# Altium schematic symbol library Driver_Motor.SchLib: 95 symbols (part 1 of 2)
Pins are listed as number, name and electrical type; pins without a type are passive.

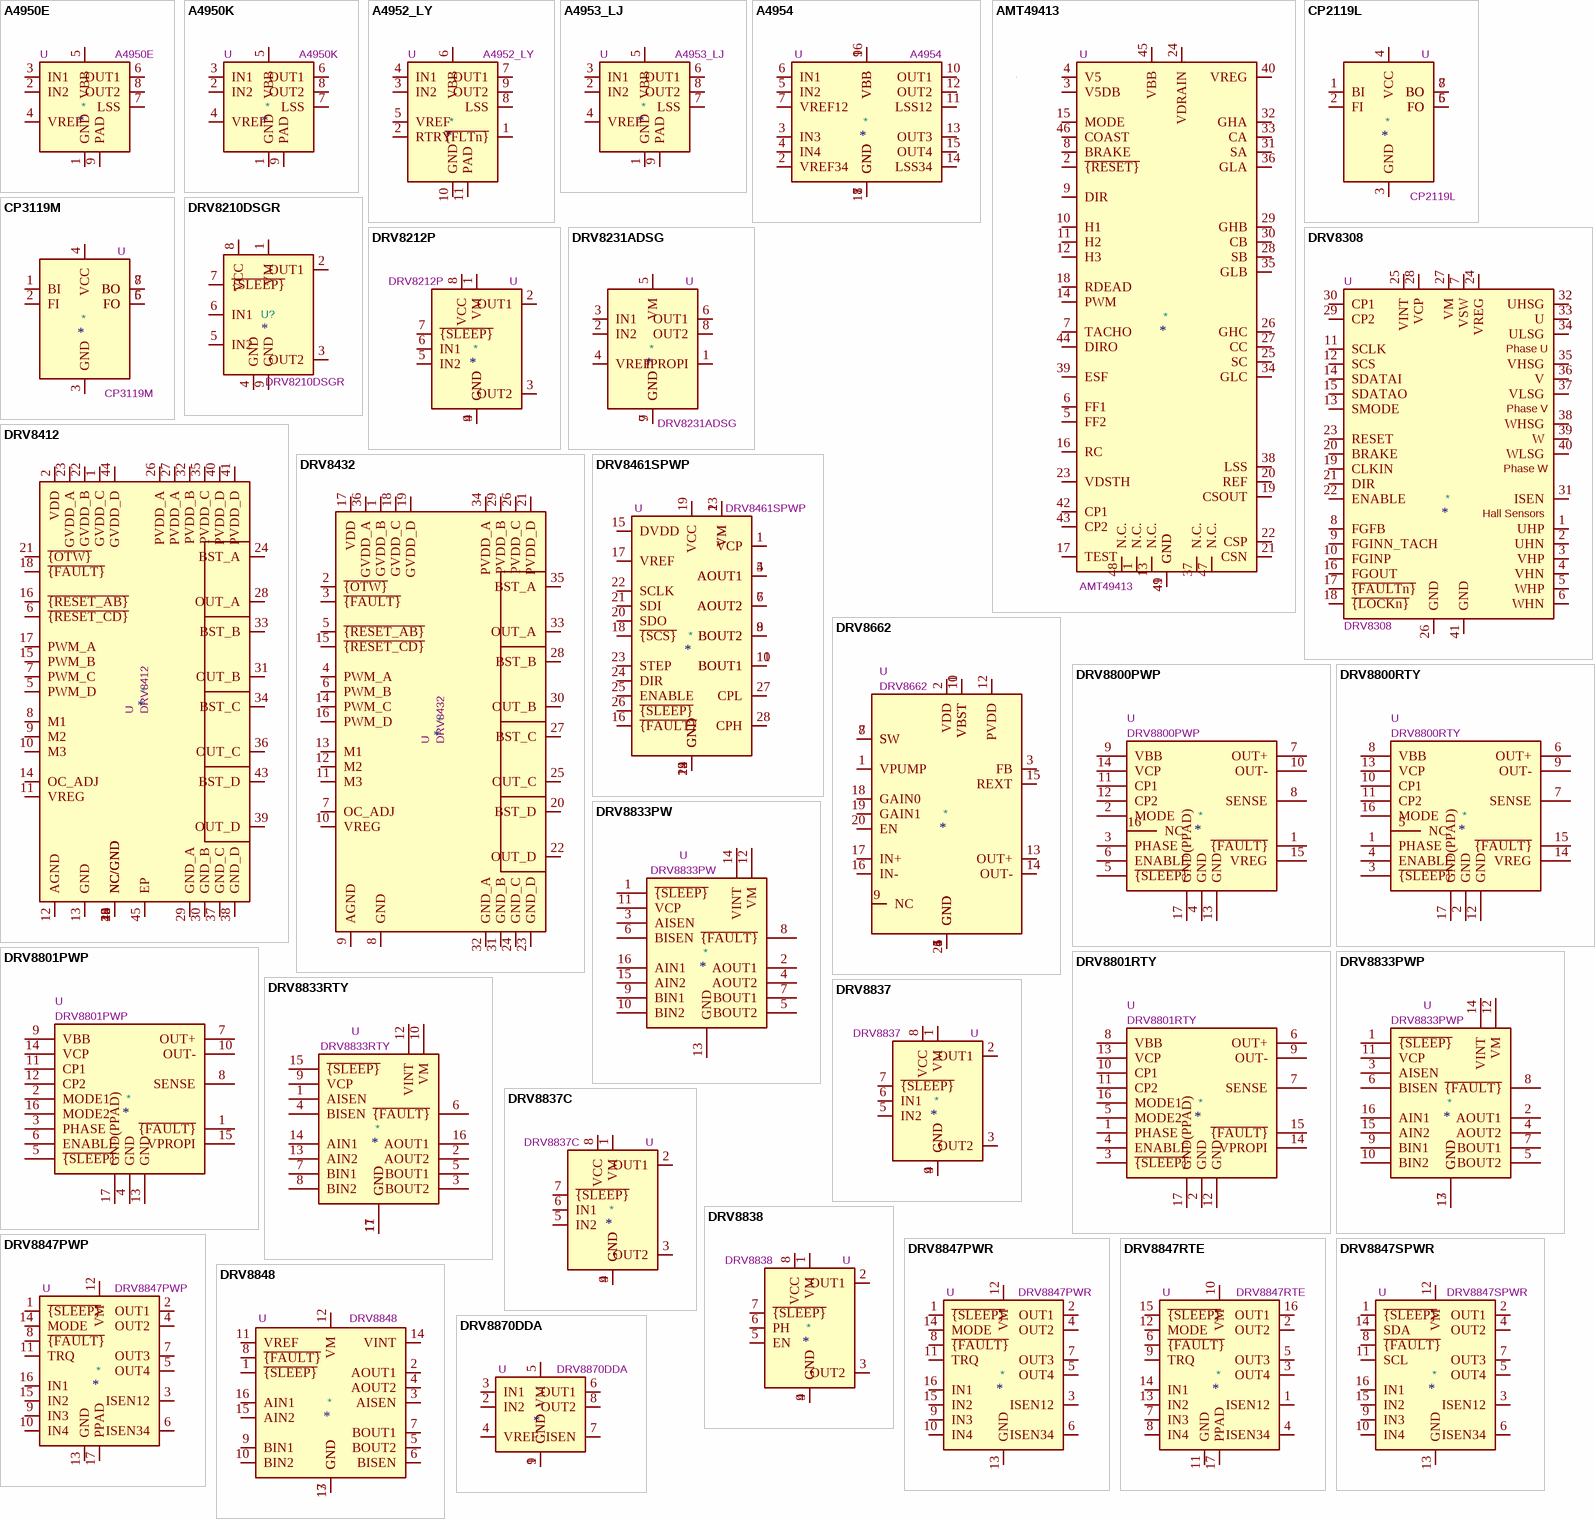
[diagram p0: symbols A4950E to DRV8870DDA]

## A4950E
designator *  value A4950E  Reference: U
Full-Bridge, DMOS PWM, Motor Driver, 40V, 3.5A, -40 to +85C; ki_keywords: full-bridge h-bridge; ki_fp_filters: SOIC*1EP*3.9x4.9mm*P1.27mm*EP2.41x3.3mm*; Footprint: Package_SO:SOIC-8-1EP_3.9x4.9mm_P1.27mm_EP2.41x3.3mm; Datasheet: http://www.allegromicro.com/~/media/Files/Datasheets/A4950-Datasheet.ashx; Description_: Full-Bridge, DMOS PWM, Motor Driver, 40V, 3.5A, -40 to +85C
pins: 1 GND, 2 IN2, 3 IN1, 4 VREF, 5 VBB, 6 OUT1, 7 LSS, 8 OUT2, 9 PAD

## A4950K
designator *  value A4950K  Reference: U
Full-Bridge, DMOS PWM, Motor Driver, 40V, 3.5A, -40 to +125C; ki_keywords: full-bridge h-bridge; ki_fp_filters: SOIC*1EP*3.9x4.9mm*P1.27mm*EP2.41x3.3mm*; Footprint: Package_SO:SOIC-8-1EP_3.9x4.9mm_P1.27mm_EP2.41x3.3mm; Datasheet: http://www.allegromicro.com/~/media/Files/Datasheets/A4950-Datasheet.ashx; Description_: Full-Bridge, DMOS PWM, Motor Driver, 40V, 3.5A, -40 to +125C
pins: 1 GND, 2 IN2, 3 IN1, 4 VREF, 5 VBB, 6 OUT1, 7 LSS, 8 OUT2, 9 PAD

## A4952_LY
designator *  value A4952_LY  Reference: U
Full-Bridge, DMOS PWM, Motor Driver, 40V, 2A, MSOP-10; ki_keywords: Full-bridge h-bridge; ki_fp_filters: MSOP*1EP*3x3mm*P0.5mm*; Footprint: Package_SO:MSOP-10-1EP_3x3mm_P0.5mm_EP1.73x1.98mm; Datasheet: www.allegromicro.com/~/media/Files/Datasheets/A4952-3-Datasheet.ashx?la=en; Description_: Full-Bridge, DMOS PWM, Motor Driver, 40V, 2A, MSOP-10
pins: 1 ~{{FLTn}}, 2 RTRY, 3 IN2, 4 IN1, 5 VREF, 6 VBB, 7 OUT1, 8 LSS, 9 OUT2, 10 GND, 11 PAD

## A4953_LJ
designator *  value A4953_LJ  Reference: U
Full-Bridge, DMOS PWM, Motor Driver, 40V, 2A, SOIC-8; ki_keywords: Full-bridge h-bridge; ki_fp_filters: SOIC*1EP*3.9x4.9mm*P1.27mm*EP2.41x3.3mm*; Footprint: Package_SO:SOIC-8-1EP_3.9x4.9mm_P1.27mm_EP2.41x3.3mm; Datasheet: www.allegromicro.com/~/media/Files/Datasheets/A4952-3-Datasheet.ashx?la=en; Description_: Full-Bridge, DMOS PWM, Motor Driver, 40V, 2A, SOIC-8
pins: 1 GND, 2 IN2, 3 IN1, 4 VREF, 5 VBB, 6 OUT1, 7 LSS, 8 OUT2, 9 PAD

## A4954
designator *  value A4954  Reference: U
Fullbridge PWM Motor Driver, UVLO, OCP, Current Limit, Short Circuit Protection, TSSOP-16; ki_keywords: Fullbridge, Stepper Driver; ki_fp_filters: TSSOP*1EP*4.4x5mm*P0.65mm*; Footprint: Package_SO:TSSOP-16-1EP_4.4x5mm_P0.65mm_EP3x3mm; Datasheet: https://www.allegromicro.com/-/media/Files/Datasheets/A4954-Datasheet.ashx; Description_: Fullbridge PWM Motor Driver, UVLO, OCP, Current Limit, Short Circuit Protection, TSSOP-16
pins: 1 GND, 2 VREF34, 3 IN3, 4 IN4, 5 IN2, 6 IN1, 7 VREF12, 8 GND, 9 VBB, 10 OUT1, 11 LSS12, 12 OUT2, 13 OUT3, 14 LSS34, 15 OUT4, 16 VBB, 17 GND

## AMT49413
designator *  value AMT49413  Reference: U
3-Phase BLDC Controller and MOSFET Driver, QFN-48; ki_keywords: BLDC 3-Phase; ki_fp_filters: QFN*1EP*7x7mm*P0.5mm*; Footprint: Package_DFN_QFN:QFN-48-1EP_7x7mm_P0.5mm_EP5.15x5.15mm_ThermalVias; Datasheet: https://www.allegromicro.com/-/media/Files/Datasheets/AMT49413-Datasheet.ashx; Description_: 3-Phase BLDC Controller and MOSFET Driver, QFN-48
pins: 1 N.C., 2 ~{{RESET}}, 3 V5DB, 4 V5, 5 FF2, 6 FF1, 7 TACHO, 8 BRAKE, 9 DIR, 10 H1, 11 H2, 12 H3, 13 N.C., 14 PWM, 15 MODE, 16 RC, 17 TEST, 18 RDEAD, 19 CSOUT, 20 REF, 21 CSN, 22 CSP, 23 VDSTH, 24 VDRAIN, 25 SC, 26 GHC, 27 CC, 28 SB, 29 GHB, 30 CB, 31 SA, 32 GHA, 33 CA, 34 GLC, 35 GLB, 36 GLA, 37 N.C., 38 LSS, 39 ESF, 40 VREG, 41 GND, 42 CP1, 43 CP2, 44 DIRO, 45 VBB, 46 COAST, 47 N.C., 48 N.C., 49 GND

## CP2119L
designator *  value CP2119L  Reference: U
H-Bridge brushed DC motor driver driver with current limit, 5A, 3..18Vm, 71mOhm RDSon, 30kHz PWM input, SO-8; ki_keywords: full-bridge driver XLBW Xinbole; ki_fp_filters: SO*3.9x4.9mm*P1.27mm*; Footprint: Package_SO:SO-8_3.9x4.9mm_P1.27mm; Datasheet: https://lcsc.com/datasheet/lcsc_datasheet_2504101957_XBLW-CP2119LDTR-XBLW_C42395498.pdf; Description_: H-Bridge brushed DC motor driver driver with current limit, 5A, 3..18Vm, 71mOhm RDSon, 30kHz PWM input, SO-8
pins: 1 BI, 2 FI, 3 GND, 4 VCC, 5 FO, 6 FO, 7 BO, 8 BO

## CP3119M
designator *  value CP3119M  Reference: U
H-Bridge brushed DC motor driver driver with current limit, 6A, 3..30Vm, 110mOhm RDSon, 30kHz PWM, SO-8; ki_keywords: full-bridge driver XLBW Xinbole; ki_fp_filters: SO*3.9x4.9mm*P1.27mm*; Footprint: Package_SO:SO-8_3.9x4.9mm_P1.27mm; Datasheet: https://lcsc.com/datasheet/lcsc_datasheet_2504101957_XBLW-CP3119MDTR-XBLW_C42395499.pdf; Description_: H-Bridge brushed DC motor driver driver with current limit, 6A, 3..30Vm, 110mOhm RDSon, 30kHz PWM, SO-8
pins: 1 BI, 2 FI, 3 GND, 4 VCC, 5 FO, 6 FO, 7 BO, 8 BO

## DRV8210DSGR
designator U?  value DRV8210DSGR
H-Bridge driver, 1.76A, Low Voltage, PWM input, WSON-8; Manufacturer: Texas Instruments; Manufacturer Lifecycle Status: ACTIVE; Description_: H-Bridge driver, 4A, Low Voltage, PWM input, WSON-8; ki_keywords: half bridge driver; ki_fp_filters: WSON*1EP*2x2mm*P0.5mm*; Reference: U; DNP: P; Max Junction Temperature (Tj): 150°C; Max Supply Voltage: 11V; Min Supply Voltage: 1.65V; Motor Type: Brushed; Nominal Supply Current: 1.4mA; Number of Channels: 1; Switching Frequency: 100kHz; Footprint: Package_SON:WSON-8-1EP_2x2mm_P0.5mm_EP0.9x1.6mm_ThermalVias; Datasheet: https://www.ti.com/lit/ds/symlink/drv8210.pdf; Ambient Temperature Range High: 125°C; Category: Motor Drivers; Height: 800µm; Length: 2mm; Lifecycle Status: Production; Manufacturer Part Number: DRV8210DSGR; Max Operating Temperature: 125°C; Min Operating Temperature: -40°C; Number of Outputs: 1; Pins: 8; Output Current: 1.76A; Output Voltage: 11V; RoHS: Compliant; Thickness: 750µm; Width: 2mm; Supplier 1: Mouser; Supplier Part Number 1: 595-DRV8210DSGR; Supplier Packaging 1: Tape & Reel; Supplier Unit Price 1: $0.77; Supplier Location 1: US
footprint WSON-8-1EP_2x2mm_P0.5mm_EP0.9x1.6mm
footprint WSON-8-1EP_2x2mm_P0.5mm_EP0.9x1.6mm_ThermalVias
pins: 1 VM, 2 OUT1, 3 OUT2, 4 GND, 5 IN2, 6 IN1, 7 ~{{SLEEP}}, 8 VCC, 9 GND

## DRV8212P
designator *  value DRV8212P  Reference: U
H-Bridge driver, 4A, Low Voltage, PWM input, WSON-8; ki_keywords: half bridge driver; ki_fp_filters: WSON*1EP*2x2mm*P0.5mm*; Footprint: Package_SON:WSON-8-1EP_2x2mm_P0.5mm_EP0.9x1.6mm_ThermalVias; Datasheet: https://www.ti.com/lit/ds/symlink/drv8212p.pdf; Description_: H-Bridge driver, 4A, Low Voltage, PWM input, WSON-8
pins: 1 VM, 2 OUT1, 3 OUT2, 4 GND, 5 IN2, 6 IN1, 7 ~{{SLEEP}}, 8 VCC, 9 GND

## DRV8231ADSG
designator *  value DRV8231ADSG  Reference: U
H-Bridge brushed DC motor driver driver, 3.7Apk,  4.5..33Vm, 600mOhm shunt, integrated current mirror, PWM input, WSON-8; ki_keywords: half bridge driver; ki_fp_filters: WSON*1EP*2x2mm*P0.5mm*; Footprint: Package_SON:WSON-8-1EP_2x2mm_P0.5mm_EP0.9x1.6mm; Datasheet: https://www.ti.com/lit/ds/symlink/drv8231a.pdf; Description_: H-Bridge brushed DC motor driver driver, 3.7Apk,  4.5..33Vm, 600mOhm shunt, integrated current mirror, PWM input, WSON-8
pins: 1 IPROPI, 2 IN2, 3 IN1, 4 VREF, 5 VM, 6 OUT1, 7 GND, 8 OUT2, 9 GND

## DRV8308
designator *  value DRV8308  Reference: U
Brushless DC motor controller, closed loop, hall sensor inputs, current limiting, SPI interface; ki_keywords: bldc mosfet-driver hall-sensor; ki_fp_filters: Texas*RHA0040E*; Footprint: Package_DFN_QFN:Texas_RHA0040E_VQFN-40-1EP_6x6mm_P0.5mm_EP3.52x2.62mm; Datasheet: http://www.ti.com/lit/ds/symlink/drv8308.pdf; Description_: Brushless DC motor controller, closed loop, hall sensor inputs, current limiting, SPI interface
pins: 1 UHP, 2 UHN, 3 VHP, 4 VHN, 5 WHP, 6 WHN, 7 VSW, 8 FGFB, 9 FGINN_TACH, 10 FGINP, 11 SCLK, 12 SCS, 13 SMODE, 14 SDATAI, 15 SDATAO, 16 FGOUT, 17 ~{{FAULTn}}, 18 ~{{LOCKn}}, 19 CLKIN, 20 BRAKE, 21 DIR, 22 ENABLE, 23 RESET, 24 VREG, 25 VINT, 26 GND, 27 VM, 28 VCP, 29 CP2, 30 CP1, 31 ISEN, 32 UHSG, 33 U, 34 ULSG, 35 VHSG, 36 V, 37 VLSG, 38 WHSG, 39 W, 40 WLSG, 41 GND
text: Phase U; Phase V; Phase W; Hall Sensors

## DRV8412
designator *  value DRV8412  Reference: U
Dual Full-Bridge PWM Motor Driver 50V 2x6A Peak, HTSSOP-44 EP ThermalVias; ki_fp_filters: *HTSSOP*44*6.1x14mm*P0.635mm*EP*ThermalVias*; Footprint: Package_SO:HTSSOP-44-1EP_6.1x14mm_P0.635mm_EP5.2x14mm_Mask4.31x8.26mm_ThermalVias; Datasheet: https://www.ti.com/lit/gpn/DRV8412; Description_: Dual Full-Bridge PWM Motor Driver 50V 2x6A Peak, HTSSOP-44 EP ThermalVias; ki_keywords: Dual Full-Bridge PWM Motor Driver
pins: 1 GVDD_C, 2 VDD, 3 NC/GND, 4 NC/GND, 5 PWM_D, 6 ~{{RESET_CD}}, 7 PWM_C, 8 M1, 9 M2, 10 M3, 11 VREG, 12 AGND, 13 GND, 14 OC_ADJ, 15 PWM_B, 16 ~{{RESET_AB}}, 17 PWM_A, 18 ~{{FAULT}}, 19 NC/GND, 20 NC/GND, 21 ~{{OTW}}, 22 GVDD_B, 23 GVDD_A, 24 BST_A, 25 NC/GND, 26 PVDD_A, 27 PVDD_A, 28 OUT_A, 29 GND_A, 30 GND_B, 31 OUT_B, 32 PVDD_B, 33 BST_B, 34 BST_C, 35 PVDD_C, 36 OUT_C, 37 GND_C, 38 GND_D, 39 OUT_D, 40 PVDD_D, 41 PVDD_D, 42 NC/GND, 43 BST_D, 44 GVDD_D, 45 EP

## DRV8432
designator *  value DRV8432  Reference: U
Dual Full-Bridge PWM Motor Driver 50V 2x12A Peak, HSOP-36, Slug-up; ki_fp_filters: *HSOP*11.0x15.9mm*P0.65mm*SlugUp*; Footprint: Package_SO:HSOP-36-1EP_11.0x15.9mm_P0.65mm_SlugUp; Datasheet: https://www.ti.com/lit/gpn/DRV8412; Description_: Dual Full-Bridge PWM Motor Driver 50V 2x12A Peak, HSOP-36, Slug-up; ki_keywords: Dual Full-Bridge PWM Motor Driver
pins: 1 GVDD_B, 2 ~{{OTW}}, 3 ~{{FAULT}}, 4 PWM_A, 5 ~{{RESET_AB}}, 6 PWM_B, 7 OC_ADJ, 8 GND, 9 AGND, 10 VREG, 11 M3, 12 M2, 13 M1, 14 PWM_C, 15 ~{{RESET_CD}}, 16 PWM_D, 17 VDD, 18 GVDD_C, 19 GVDD_D, 20 BST_D, 21 PVDD_D, 22 OUT_D, 23 GND_D, 24 GND_C, 25 OUT_C, 26 PVDD_C, 27 BST_C, 28 BST_B, 29 PVDD_B, 30 OUT_B, 31 GND_B, 32 GND_A, 33 OUT_A, 34 PVDD_A, 35 BST_A, 36 GVDD_A

## DRV8461SPWP
designator *  value DRV8461SPWP  Reference: U
65V, 3A SPI Stepper motor controller with integrated MOSFETs, automatic torque, automatic microstep, HTSSOP-28; ki_keywords: texas ti microstep driver silent STEP DIR; ki_fp_filters: Texas*PWP*; Footprint: Package_SO:Texas_PWP0020A; Datasheet: https://www.ti.com/lit/ds/symlink/drv8461.pdf; Description_: 65V, 3A SPI Stepper motor controller with integrated MOSFETs, automatic torque, automatic microstep, HTSSOP-28
pins: 1 VCP, 2 VM, 3 GND, 4 AOUT1, 5 AOUT1, 6 AOUT2, 7 AOUT2, 8 BOUT2, 9 BOUT2, 10 BOUT1, 11 BOUT1, 12 GND, 13 VM, 14 GND, 15 DVDD, 16 ~{{FAULT}}, 17 VREF, 18 ~{{SCS}}, 19 VCC, 20 SDO, 21 SDI, 22 SCLK, 23 STEP, 24 DIR, 25 ENABLE, 26 ~{{SLEEP}}, 27 CPL, 28 CPH, 29 GND

## DRV8662
designator *  value DRV8662  Reference: U
Piezo Haptic Driver with Integrated Boost Converter; ki_keywords: piezo driver boost; ki_fp_filters: Texas*RGP0020D*; Footprint: Package_DFN_QFN:Texas_RGP0020D_VQFN-20-1EP_4x4mm_P0.5mm_EP2.7x2.7mm_ThermalVias; Datasheet: http://www.ti.com/lit/ds/symlink/drv8662.pdf; Description_: Piezo Haptic Driver with Integrated Boost Converter
pins: 1 VPUMP, 2 VDD, 3 FB, 4 GND, 5 GND, 6 GND, 7 SW, 8 SW, 9 NC, 10 VBST, 11 VBST, 12 PVDD, 13 OUT+, 14 OUT-, 15 REXT, 16 IN-, 17 IN+, 18 GAIN0, 19 GAIN1, 20 EN, 21 GND

## DRV8800PWP
designator *  value DRV8800PWP  Reference: U
H-Bridge Motor Driver, TSSOP-16; ki_fp_filters: *TSSOP*4.4x5mm*P0.65mm*; Footprint: Package_SO:HTSSOP-16-1EP_4.4x5mm_P0.65mm_EP3.4x5mm_Mask3x3mm_ThermalVias; Datasheet: http://www.ti.com/lit/ds/symlink/drv8801.pdf; Description_: H-Bridge Motor Driver, TSSOP-16; ki_keywords: H-Bridge Motor Driver
pins: 1 ~{{FAULT}}, 2 MODE, 3 PHASE, 4 GND, 5 ~{{SLEEP}}, 6 ENABLE, 7 OUT+, 8 SENSE, 9 VBB, 10 OUT-, 11 CP1, 12 CP2, 13 GND, 14 VCP, 15 VREG, 16 NC, 17 GND(PPAD)

## DRV8800RTY
designator *  value DRV8800RTY  Reference: U
H-Bridge Motor Driver, WQFN-16; ki_fp_filters: Texas*RTY*EP2.1x2.1mm*; Footprint: Package_DFN_QFN:Texas_RTY_WQFN-16-1EP_4x4mm_P0.65mm_EP2.1x2.1mm_ThermalVias; Datasheet: http://www.ti.com/lit/ds/symlink/drv8801.pdf; Description_: H-Bridge Motor Driver, WQFN-16; ki_keywords: H-Bridge Motor Driver
pins: 1 PHASE, 2 GND, 3 ~{{SLEEP}}, 4 ENABLE, 5 NC, 6 OUT+, 7 SENSE, 8 VBB, 9 OUT-, 10 CP1, 11 CP2, 12 GND, 13 VCP, 14 VREG, 15 ~{{FAULT}}, 16 MODE, 17 GND(PPAD)

## DRV8801PWP
designator *  value DRV8801PWP  Reference: U
H-Bridge Motor Driver, TSSOP-16; ki_fp_filters: *TSSOP*4.4x5mm*P0.65mm*; Footprint: Package_SO:HTSSOP-16-1EP_4.4x5mm_P0.65mm_EP3.4x5mm_Mask3x3mm_ThermalVias; Datasheet: http://www.ti.com/lit/ds/symlink/drv8801.pdf; Description_: H-Bridge Motor Driver, TSSOP-16; ki_keywords: H-Bridge Motor Driver
pins: 1 ~{{FAULT}}, 2 MODE1, 3 PHASE, 4 GND, 5 ~{{SLEEP}}, 6 ENABLE, 7 OUT+, 8 SENSE, 9 VBB, 10 OUT-, 11 CP1, 12 CP2, 13 GND, 14 VCP, 15 VPROPI, 16 MODE2, 17 GND(PPAD)

## DRV8801RTY
designator *  value DRV8801RTY  Reference: U
H-Bridge Motor Driver, WQFN-16; ki_fp_filters: Texas*RTY*EP2.1x2.1mm*; Footprint: Package_DFN_QFN:Texas_RTY_WQFN-16-1EP_4x4mm_P0.65mm_EP2.1x2.1mm_ThermalVias; Datasheet: http://www.ti.com/lit/ds/symlink/drv8801.pdf; Description_: H-Bridge Motor Driver, WQFN-16; ki_keywords: H-Bridge Motor Driver
pins: 1 PHASE, 2 GND, 3 ~{{SLEEP}}, 4 ENABLE, 5 MODE2, 6 OUT+, 7 SENSE, 8 VBB, 9 OUT-, 10 CP1, 11 CP2, 12 GND, 13 VCP, 14 VPROPI, 15 ~{{FAULT}}, 16 MODE1, 17 GND(PPAD)

## DRV8833PW
designator *  value DRV8833PW  Reference: U
Dual H-Bridge Motor Driver, TSSOP-16; ki_fp_filters: TSSOP*4.4x5mm*P0.65mm*; Footprint: Package_SO:TSSOP-16_4.4x5mm_P0.65mm; Datasheet: http://www.ti.com/lit/ds/symlink/drv8833.pdf; Description_: Dual H-Bridge Motor Driver, TSSOP-16; ki_keywords: H-bridge motor driver
pins: 1 ~{{SLEEP}}, 2 AOUT1, 3 AISEN, 4 AOUT2, 5 BOUT2, 6 BISEN, 7 BOUT1, 8 ~{{FAULT}}, 9 BIN1, 10 BIN2, 11 VCP, 12 VM, 13 GND, 14 VINT, 15 AIN2, 16 AIN1

## DRV8833PWP
designator *  value DRV8833PWP  Reference: U
Dual H-Bridge Motor Driver, HTSSOP-16; ki_fp_filters: HTSSOP*1EP*4.4x5mm*P0.65mm*EP3.4x5mm*; Footprint: Package_SO:HTSSOP-16-1EP_4.4x5mm_P0.65mm_EP3.4x5mm_Mask2.46x2.31mm_ThermalVias; Datasheet: http://www.ti.com/lit/ds/symlink/drv8833.pdf; Description_: Dual H-Bridge Motor Driver, HTSSOP-16; ki_keywords: H-bridge motor driver
pins: 1 ~{{SLEEP}}, 2 AOUT1, 3 AISEN, 4 AOUT2, 5 BOUT2, 6 BISEN, 7 BOUT1, 8 ~{{FAULT}}, 9 BIN1, 10 BIN2, 11 VCP, 12 VM, 13 GND, 14 VINT, 15 AIN2, 16 AIN1, 17 GND

## DRV8833RTY
designator *  value DRV8833RTY  Reference: U
Dual H-Bridge Motor Driver, WQFN-16; ki_fp_filters: Texas*RTY*EP2.1x2.1mm*; Footprint: Package_DFN_QFN:Texas_RTY_WQFN-16-1EP_4x4mm_P0.65mm_EP2.1x2.1mm_ThermalVias; Datasheet: http://www.ti.com/lit/ds/symlink/drv8833.pdf; Description_: Dual H-Bridge Motor Driver, WQFN-16; ki_keywords: H-bridge motor driver
pins: 1 AISEN, 2 AOUT2, 3 BOUT2, 4 BISEN, 5 BOUT1, 6 ~{{FAULT}}, 7 BIN1, 8 BIN2, 9 VCP, 10 VM, 11 GND, 12 VINT, 13 AIN2, 14 AIN1, 15 ~{{SLEEP}}, 16 AOUT1, 17 GND

## DRV8837
designator *  value DRV8837  Reference: U
H-Bridge driver, 1.8A, Low Voltage, PWM input, WSON-8; ki_keywords: half bridge driver; ki_fp_filters: WSON*1EP*2x2mm*P0.5mm*; Footprint: Package_SON:WSON-8-1EP_2x2mm_P0.5mm_EP0.9x1.6mm; Datasheet: http://www.ti.com/lit/ds/symlink/drv8837.pdf; Description_: H-Bridge driver, 1.8A, Low Voltage, PWM input, WSON-8
pins: 1 VM, 2 OUT1, 3 OUT2, 4 GND, 5 IN2, 6 IN1, 7 ~{{SLEEP}}, 8 VCC, 9 GND

## DRV8837C
designator *  value DRV8837C  Reference: U
H-Bridge driver, 1A, Low Voltage, PWM input, WSON-8; ki_keywords: half bridge driver; ki_fp_filters: WSON*1EP*2x2mm*P0.5mm*; Footprint: Package_SON:WSON-8-1EP_2x2mm_P0.5mm_EP0.9x1.6mm; Datasheet: http://www.ti.com/lit/ds/symlink/drv8837c.pdf; Description_: H-Bridge driver, 1A, Low Voltage, PWM input, WSON-8
pins: 1 VM, 2 OUT1, 3 OUT2, 4 GND, 5 IN2, 6 IN1, 7 ~{{SLEEP}}, 8 VCC, 9 GND

## DRV8838
designator *  value DRV8838  Reference: U
H-Bridge driver, 1.8A, Low Voltage, PH/EN input, WSON-8; ki_keywords: half bridge driver; ki_fp_filters: WSON*1EP*2x2mm*P0.5mm*; Footprint: Package_SON:WSON-8-1EP_2x2mm_P0.5mm_EP0.9x1.6mm; Datasheet: http://www.ti.com/lit/ds/symlink/drv8837.pdf; Description_: H-Bridge driver, 1.8A, Low Voltage, PH/EN input, WSON-8
pins: 1 VM, 2 OUT1, 3 OUT2, 4 GND, 5 EN, 6 PH, 7 ~{{SLEEP}}, 8 VCC, 9 GND

## DRV8847PWP
designator *  value DRV8847PWP  Reference: U
Dual H-Bridge Motor Driver, 1A, HTSSOP-16; ki_fp_filters: HTSSOP*1EP*4.4x5mm*P0.65mm*; Footprint: Package_SO:HTSSOP-16-1EP_4.4x5mm_P0.65mm_EP3.4x5mm_Mask2.46x2.31mm_ThermalVias; Datasheet: https://www.ti.com/lit/ds/symlink/drv8847.pdf; Description_: Dual H-Bridge Motor Driver, 1A, HTSSOP-16; ki_keywords: Dual H-Bridge motor driver
pins: 1 ~{{SLEEP}}, 2 OUT1, 3 ISEN12, 4 OUT2, 5 OUT4, 6 ISEN34, 7 OUT3, 8 ~{{FAULT}}, 9 IN3, 10 IN4, 11 TRQ, 12 VM, 13 GND, 14 MODE, 15 IN2, 16 IN1, 17 PPAD

## DRV8847PWR
designator *  value DRV8847PWR  Reference: U
Dual H-Bridge Motor Driver, 1A, TSSOP-16; ki_fp_filters: TSSOP*4.4x5mm*P0.65mm*; Footprint: Package_SO:TSSOP-16_4.4x5mm_P0.65mm; Datasheet: https://www.ti.com/lit/ds/symlink/drv8847.pdf; Description_: Dual H-Bridge Motor Driver, 1A, TSSOP-16; ki_keywords: Dual H-Bridge motor driver
pins: 1 ~{{SLEEP}}, 2 OUT1, 3 ISEN12, 4 OUT2, 5 OUT4, 6 ISEN34, 7 OUT3, 8 ~{{FAULT}}, 9 IN3, 10 IN4, 11 TRQ, 12 VM, 13 GND, 14 MODE, 15 IN2, 16 IN1

## DRV8847RTE
designator *  value DRV8847RTE  Reference: U
Dual H-Bridge Motor Driver, 1A, WQFN-16; ki_fp_filters: QFN*1EP*3x3mm*P0.5mm*; Footprint: Package_DFN_QFN:QFN-16-1EP_3x3mm_P0.5mm_EP1.7x1.7mm_ThermalVias; Datasheet: https://www.ti.com/lit/ds/symlink/drv8847.pdf; Description_: Dual H-Bridge Motor Driver, 1A, WQFN-16; ki_keywords: Dual H-Bridge motor driver
pins: 1 ISEN12, 2 OUT2, 3 OUT4, 4 ISEN34, 5 OUT3, 6 ~{{FAULT}}, 7 IN3, 8 IN4, 9 TRQ, 10 VM, 11 GND, 12 MODE, 13 IN2, 14 IN1, 15 ~{{SLEEP}}, 16 OUT1, 17 PPAD

## DRV8847SPWR
designator *  value DRV8847SPWR  Reference: U
Dual H-Bridge Motor Driver, 1A, I2C Interface, TSSOP-16; ki_fp_filters: TSSOP*4.4x5mm*P0.65mm*; Footprint: Package_SO:TSSOP-16_4.4x5mm_P0.65mm; Datasheet: https://www.ti.com/lit/ds/symlink/drv8847.pdf; Description_: Dual H-Bridge Motor Driver, 1A, I2C Interface, TSSOP-16; ki_keywords: Dual H-Bridge motor driver
pins: 1 ~{{SLEEP}}, 2 OUT1, 3 ISEN12, 4 OUT2, 5 OUT4, 6 ISEN34, 7 OUT3, 8 ~{{FAULT}}, 9 IN3, 10 IN4, 11 SCL, 12 VM, 13 GND, 14 SDA, 15 IN2, 16 IN1

## DRV8848
designator *  value DRV8848  Reference: U
Dual H-Bridge motor driver, PWM controlled, single/dual brushed DC stepper, +2 to +18 VDD, TSSOP-16; ki_fp_filters: TSSOP*1EP*4.4x5mm*P0.65mm*; Footprint: Package_SO:TSSOP-16-1EP_4.4x5mm_P0.65mm; Datasheet: http://www.ti.com/lit/ds/symlink/drv8848.pdf; Description_: Dual H-Bridge motor driver, PWM controlled, single/dual brushed DC stepper, +2 to +18 VDD, TSSOP-16; ki_keywords: Dual H-Bridge motor driver
pins: 1 ~{{SLEEP}}, 2 AOUT1, 3 AISEN, 4 AOUT2, 5 BOUT2, 6 BISEN, 7 BOUT1, 8 ~{{FAULT}}, 9 BIN1, 10 BIN2, 11 VREF, 12 VM, 13 GND, 14 VINT, 15 AIN2, 16 AIN1, 17 GND

## DRV8870DDA
designator *  value DRV8870DDA  Reference: U
Brushed DC Motor Driver, PWM Control, 45V, 3.6A, Dynamic current limiting, HTSOP-8; ki_keywords: H-bridge driver motor current limit; ki_fp_filters: Texas*HTSOP*1EP*3.9x4.9mm*P1.27mm*EP2.95x4.9mm*Mask2.4x3.1mm*; Footprint: Package_SO:Texas_HTSOP-8-1EP_3.9x4.9mm_P1.27mm_EP2.95x4.9mm_Mask2.4x3.1mm_ThermalVias; Datasheet: http://www.ti.com/lit/ds/symlink/drv8870.pdf; Description_: Brushed DC Motor Driver, PWM Control, 45V, 3.6A, Dynamic current limiting, HTSOP-8
pins: 1 GND, 2 IN2, 3 IN1, 4 VREF, 5 VM, 6 OUT1, 7 ISEN, 8 OUT2, 9 GND

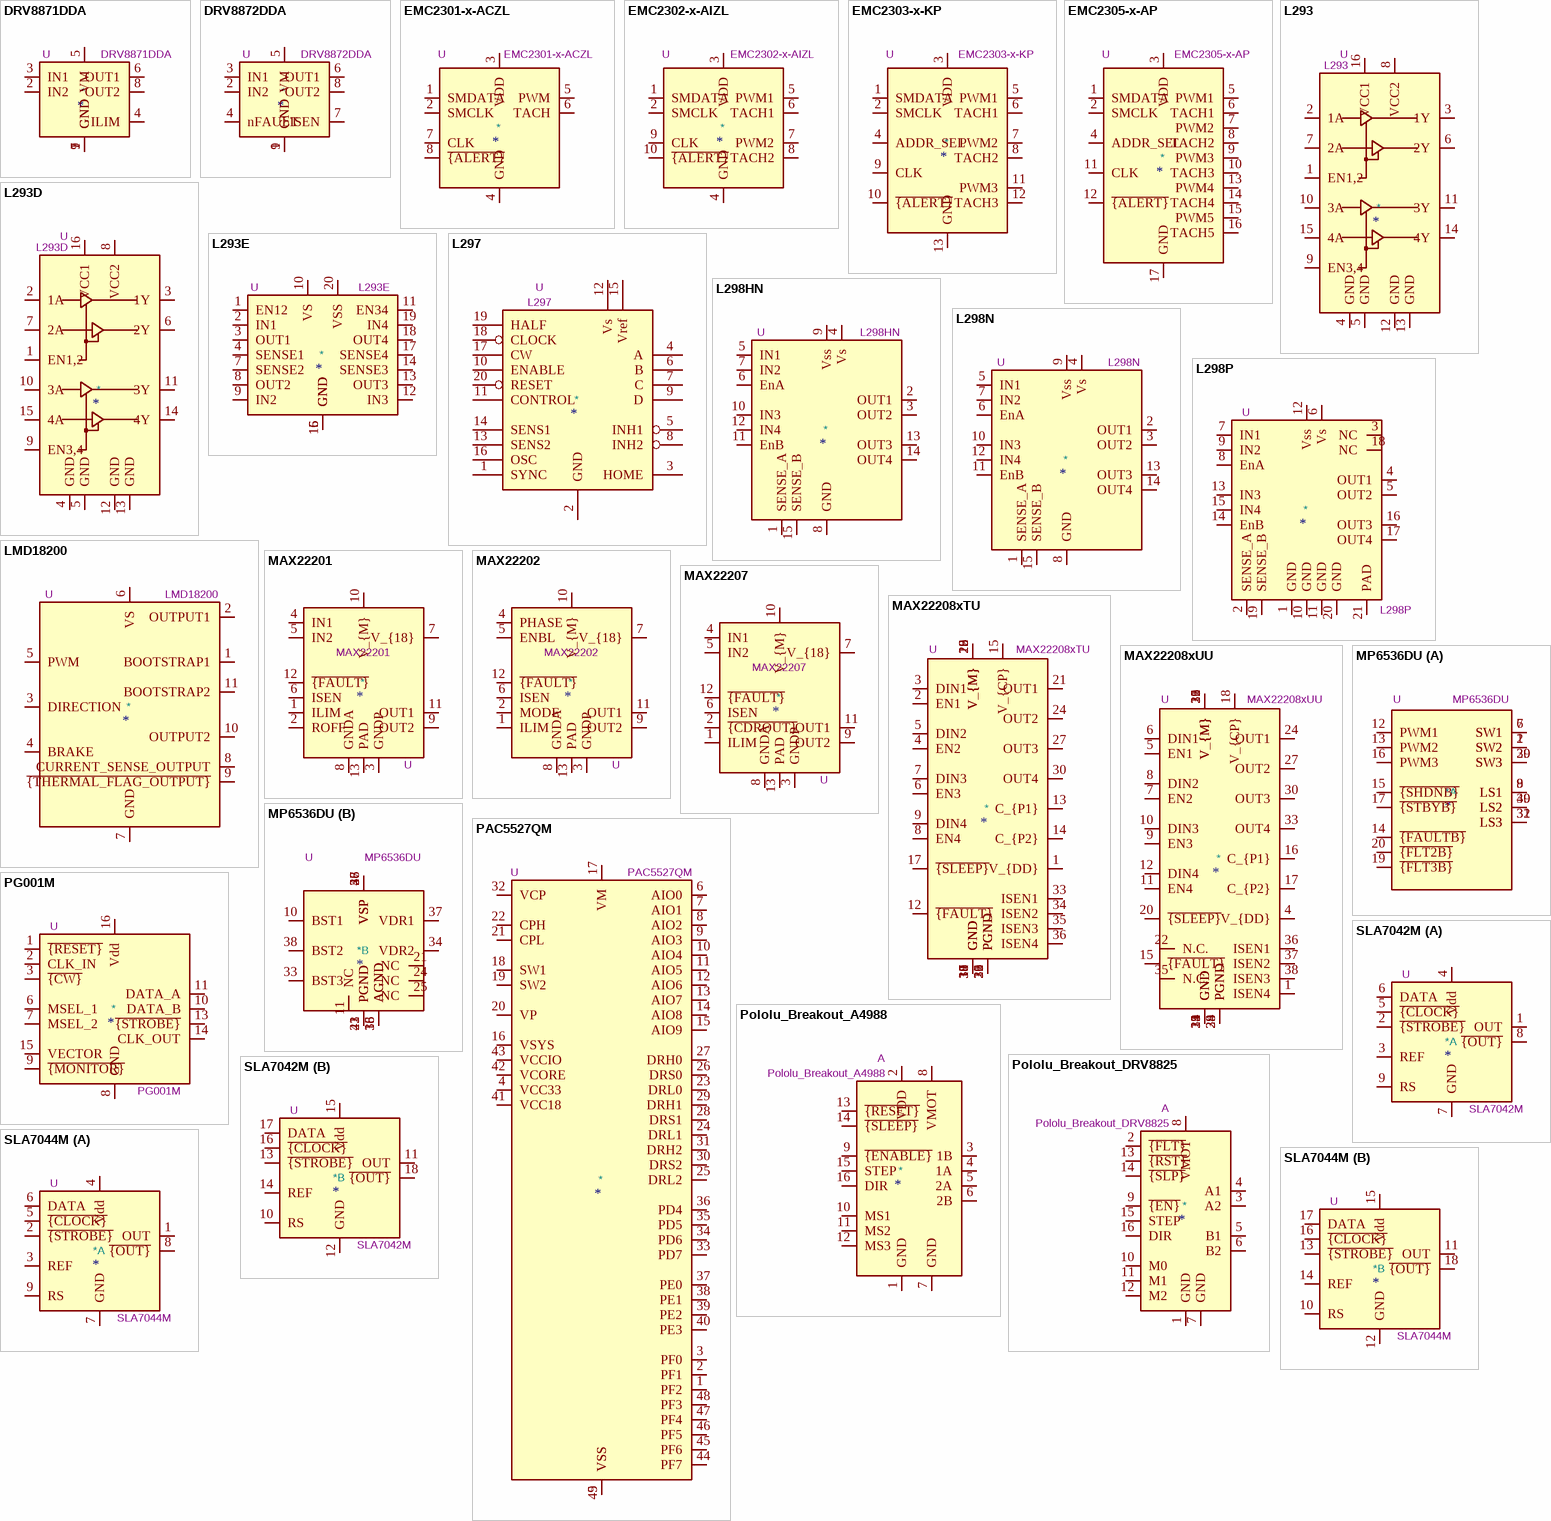
[diagram p1: symbols DRV8871DDA to SLA7044M]

## DRV8871DDA
designator *  value DRV8871DDA  Reference: U
Brushed DC Motor Driver, PWM Control, 45V, 3.6A, Current limiting, HTSOP-8; ki_keywords: H-bridge driver motor current limit; ki_fp_filters: Texas*HTSOP*1EP*3.9x4.9mm*P1.27mm*EP2.95x4.9mm*Mask2.4x3.1mm*; Footprint: Package_SO:Texas_HTSOP-8-1EP_3.9x4.9mm_P1.27mm_EP2.95x4.9mm_Mask2.4x3.1mm_ThermalVias; Datasheet: http://www.ti.com/lit/ds/symlink/drv8871.pdf; Description_: Brushed DC Motor Driver, PWM Control, 45V, 3.6A, Current limiting, HTSOP-8
pins: 1 GND, 2 IN2, 3 IN1, 4 ILIM, 5 VM, 6 OUT1, 7 GND, 8 OUT2, 9 GND

## DRV8872DDA
designator *  value DRV8872DDA  Reference: U
Brushed DC Motor Driver, PWM Control, 45V, 3.6A, Current limiting, Fault Reporting, HTSOP-8; ki_keywords: H-bridge driver motor current limit; ki_fp_filters: Texas*HTSOP*1EP*3.9x4.9mm*P1.27mm*EP2.95x4.9mm*Mask2.4x3.1mm*; Footprint: Package_SO:Texas_HTSOP-8-1EP_3.9x4.9mm_P1.27mm_EP2.95x4.9mm_Mask2.4x3.1mm_ThermalVias; Datasheet: http://www.ti.com/lit/ds/symlink/drv8872.pdf; Description_: Brushed DC Motor Driver, PWM Control, 45V, 3.6A, Current limiting, Fault Reporting, HTSOP-8
pins: 1 GND, 2 IN2, 3 IN1, 4 nFAULT, 5 VM, 6 OUT1, 7 ISEN, 8 OUT2, 9 GND

## EMC2301-x-ACZL
designator *  value EMC2301-x-ACZL  Reference: U
Single RPM-Based PWM Fan Controller, up to 26 kHz, 3.3V power supply, MSOP-8; ki_keywords: DRIVER MOTOR SMBus I2C 4-wire; ki_fp_filters: *MSOP*3x3mm*P0.65mm*; Footprint: Package_SO:MSOP-8_3x3mm_P0.65mm; Datasheet: https://ww1.microchip.com/downloads/aemDocuments/documents/MSLD/ProductDocuments/DataSheets/EMC2301-2-3-5-Data-Sheet-DS20006532A.pdf; Description_: Single RPM-Based PWM Fan Controller, up to 26 kHz, 3.3V power supply, MSOP-8
pins: 1 SMDATA, 2 SMCLK, 3 VDD, 4 GND, 5 PWM, 6 TACH, 7 CLK, 8 ~{{ALERT}}

## EMC2302-x-AIZL
designator *  value EMC2302-x-AIZL  Reference: U
Dual RPM-Based PWM Fan Controller, up to 26 kHz, 3.3V power supply, MSOP-10; ki_keywords: DRIVER MOTOR SMBus I2C 4-wire; ki_fp_filters: *MSOP*3x3mm*P0.5mm*; Footprint: Package_SO:MSOP-10_3x3mm_P0.5mm; Datasheet: https://ww1.microchip.com/downloads/aemDocuments/documents/MSLD/ProductDocuments/DataSheets/EMC2301-2-3-5-Data-Sheet-DS20006532A.pdf; Description_: Dual RPM-Based PWM Fan Controller, up to 26 kHz, 3.3V power supply, MSOP-10
pins: 1 SMDATA, 2 SMCLK, 3 VDD, 4 GND, 5 PWM1, 6 TACH1, 7 PWM2, 8 TACH2, 9 CLK, 10 ~{{ALERT}}

## EMC2303-x-KP
designator *  value EMC2303-x-KP  Reference: U
Multiple RPM-Based PWM Fan Controller for 3 Fans, up to 26 kHz, 3.3V power supply, VQFN-12; ki_keywords: DRIVER MOTOR SMBus I2C 4-wire; ki_fp_filters: *VQFN*1EP*4x4mm*P0.8mm*EP2.1x2.1mm*; Footprint: Package_DFN_QFN:VQFN-12-1EP_4x4mm_P0.8mm_EP2.1x2.1mm_ThermalVias; Datasheet: https://ww1.microchip.com/downloads/aemDocuments/documents/MSLD/ProductDocuments/DataSheets/EMC2301-2-3-5-Data-Sheet-DS20006532A.pdf; Description_: Multiple RPM-Based PWM Fan Controller for 3 Fans, up to 26 kHz, 3.3V power supply, VQFN-12
pins: 1 SMDATA, 2 SMCLK, 3 VDD, 4 ADDR_SEL, 5 PWM1, 6 TACH1, 7 PWM2, 8 TACH2, 9 CLK, 10 ~{{ALERT}}, 11 PWM3, 12 TACH3, 13 GND

## EMC2305-x-AP
designator *  value EMC2305-x-AP  Reference: U
Multiple RPM-Based PWM Fan Controller for 5 Fans, up to 26 kHz, 3.3V power supply, VQFN-16; ki_keywords: DRIVER MOTOR SMBus I2C 4-wire; ki_fp_filters: *VQFN*1EP*4x4mm*P0.65mm*EP2.1x2.1mm*; Footprint: Package_DFN_QFN:Texas_RGV0016A_VQFN-16-1EP_4x4mm_P0.65mm_EP2.1x2.1mm_ThermalVias; Datasheet: https://ww1.microchip.com/downloads/aemDocuments/documents/MSLD/ProductDocuments/DataSheets/EMC2301-2-3-5-Data-Sheet-DS20006532A.pdf; Description_: Multiple RPM-Based PWM Fan Controller for 5 Fans, up to 26 kHz, 3.3V power supply, VQFN-16
pins: 1 SMDATA, 2 SMCLK, 3 VDD, 4 ADDR_SEL, 5 PWM1, 6 TACH1, 7 PWM2, 8 TACH2, 9 PWM3, 10 TACH3, 11 CLK, 12 ~{{ALERT}}, 13 PWM4, 14 TACH4, 15 PWM5, 16 TACH5, 17 GND

## L293
designator *  value L293  Reference: U
Quadruple Half-H Drivers; ki_keywords: Half-H Driver Motor; ki_fp_filters: DIP*W7.62mm*; Footprint: Package_DIP:DIP-16_W7.62mm; Datasheet: http://www.ti.com/lit/ds/symlink/l293.pdf; Description_: Quadruple Half-H Drivers
pins: 1 EN1,2, 2 1A, 3 1Y, 4 GND, 5 GND, 6 2Y, 7 2A, 8 VCC2, 9 EN3,4, 10 3A, 11 3Y, 12 GND, 13 GND, 14 4Y, 15 4A, 16 VCC1

## L293D
designator *  value L293D  Reference: U
Quadruple Half-H Drivers; ki_keywords: Half-H Driver Motor; ki_fp_filters: DIP*W7.62mm*; Footprint: Package_DIP:DIP-16_W7.62mm; Datasheet: http://www.ti.com/lit/ds/symlink/l293.pdf; Description_: Quadruple Half-H Drivers
pins: 1 EN1,2, 2 1A, 3 1Y, 4 GND, 5 GND, 6 2Y, 7 2A, 8 VCC2, 9 EN3,4, 10 3A, 11 3Y, 12 GND, 13 GND, 14 4Y, 15 4A, 16 VCC1

## L293E
designator *  value L293E  Reference: U
Push-pull four-channel driver, DIP-20; ki_keywords: Half-H Driver Motor Sense; ki_fp_filters: DIP*W7.62mm*; Footprint: Package_DIP:DIP-20_W7.62mm; Datasheet: https://www.st.com/resource/en/datasheet/l293e.pdf; Description_: Push-pull four-channel driver, DIP-20
pins: 1 EN12, 2 IN1, 3 OUT1, 4 SENSE1, 5 GND, 6 GND, 7 SENSE2, 8 OUT2, 9 IN2, 10 VS, 11 EN34, 12 IN3, 13 OUT3, 14 SENSE3, 15 GND, 16 GND, 17 SENSE4, 18 OUT4, 19 IN4, 20 VSS

## L297
designator *  value L297  Reference: U
Stepper Motor Controller, DIP-20/SO-20; ki_fp_filters: DIP* SO*; Datasheet: www.st.com/resource/en/datasheet/cd00000063.pdf; Description_: Stepper Motor Controller, DIP-20/SO-20; ki_keywords: Stepper Motor Controller
pins: 1 SYNC, 2 GND, 3 HOME, 4 A, 5 INH1, 6 B, 7 C, 8 INH2, 9 D, 10 ENABLE, 11 CONTROL, 12 Vs, 13 SENS2, 14 SENS1, 15 Vref, 16 OSC, 17 CW, 18 CLOCK, 19 HALF, 20 RESET

## L298HN
designator *  value L298HN  Reference: U
Dual full bridge motor driver, up to 46V, 4A, Multiwatt15-H; ki_keywords: H-bridge motor driver; ki_fp_filters: TO?220*StaggerOdd*TabDown*; Footprint: Package_TO_SOT_THT:TO-220-15_P2.54x2.54mm_StaggerOdd_Lead5.84mm_TabDown; Datasheet: http://www.st.com/st-web-ui/static/active/en/resource/technical/document/datasheet/CD00000240.pdf; Description_: Dual full bridge motor driver, up to 46V, 4A, Multiwatt15-H
pins: 1 SENSE_A, 2 OUT1, 3 OUT2, 4 Vs, 5 IN1, 6 EnA, 7 IN2, 8 GND, 9 Vss, 10 IN3, 11 EnB, 12 IN4, 13 OUT3, 14 OUT4, 15 SENSE_B

## L298N
designator *  value L298N  Reference: U
Dual full bridge motor driver, up to 46V, 4A, Multiwatt15-V; ki_keywords: H-bridge motor driver; ki_fp_filters: TO?220*StaggerOdd*Vertical*; Footprint: Package_TO_SOT_THT:TO-220-15_P2.54x5.08mm_StaggerOdd_Lead4.58mm_Vertical; Datasheet: http://www.st.com/st-web-ui/static/active/en/resource/technical/document/datasheet/CD00000240.pdf; Description_: Dual full bridge motor driver, up to 46V, 4A, Multiwatt15-V
pins: 1 SENSE_A, 2 OUT1, 3 OUT2, 4 Vs, 5 IN1, 6 EnA, 7 IN2, 8 GND, 9 Vss, 10 IN3, 11 EnB, 12 IN4, 13 OUT3, 14 OUT4, 15 SENSE_B

## L298P
designator *  value L298P  Reference: U
Dual full bridge motor driver, up to 46V, 4A; ki_keywords: H-bridge motor driver; ki_fp_filters: Package*SO:HSOP*1EP*11.0x15.9mm*P1.27mm*SlugDown*; Footprint: Package_SO:HSOP-20-1EP_11.0x15.9mm_P1.27mm_SlugDown; Datasheet: http://www.st.com/st-web-ui/static/active/en/resource/technical/document/datasheet/CD00000240.pdf; Description_: Dual full bridge motor driver, up to 46V, 4A
pins: 1 GND, 2 SENSE_A, 3 NC, 4 OUT1, 5 OUT2, 6 Vs, 7 IN1, 8 EnA, 9 IN2, 10 GND, 11 GND, 12 Vss, 13 IN3, 14 EnB, 15 IN4, 16 OUT3, 17 OUT4, 18 NC, 19 SENSE_B, 20 GND, 21 PAD

## LMD18200
designator *  value LMD18200  Reference: U
3A, 55V H-Bridge, Motion Control Applications, TO-220-11; ki_keywords: H-Bridge DC stepper servo motor driver Motion Control Applications; ki_fp_filters: TO?220*; Footprint: Package_TO_SOT_THT:TO-220-11_P3.4x5.08mm_StaggerOdd_Lead4.85mm_Vertical; Datasheet: http://www.ti.com/lit/ds/symlink/lmd18200.pdf; Description_: 3A, 55V H-Bridge, Motion Control Applications, TO-220-11
pins: 1 BOOTSTRAP1, 2 OUTPUT1, 3 DIRECTION, 4 BRAKE, 5 PWM, 6 VS, 7 GND, 8 CURRENT_SENSE_OUTPUT, 9 ~{{THERMAL_FLAG_OUTPUT}}, 10 OUTPUT2, 11 BOOTSTRAP2

## MAX22201
designator *  value MAX22201  Reference: U
36V, 3.5A Brushed Motor Driver with Integrated Current Sense and Configurable Off Time, 12-TDFN; ki_fp_filters: Maxim*TDFN*12*1EP*3x3mm*P0.5mm*EP1.7x2.5mm*; Footprint: Package_DFN_QFN:Maxim_TDFN-12-1EP_3x3mm_P0.5mm_EP1.7x2.5mm_ThermalVias; Datasheet: https://www.analog.com/media/en/technical-documentation/data-sheets/max22201-max22207.pdf; Description_: 36V, 3.5A Brushed Motor Driver with Integrated Current Sense and Configurable Off Time, 12-TDFN; ki_keywords: Brushed Motor Driver
pins: 1 ILIM, 2 ROFF, 3 GNDP, 4 IN1, 5 IN2, 6 ISEN, 7 V_{18}, 8 GNDA, 9 OUT2, 10 V_{M}, 11 OUT1, 12 ~{{FAULT}}, 13 PAD

## MAX22202
designator *  value MAX22202  Reference: U
36V, 3.5A Brushed Motor Driver with Integrated Current Sense and Enable/Phase Inputs, 12-TDFN; ki_fp_filters: Maxim*TDFN*12*1EP*3x3mm*P0.5mm*EP1.7x2.5mm*; Footprint: Package_DFN_QFN:Maxim_TDFN-12-1EP_3x3mm_P0.5mm_EP1.7x2.5mm_ThermalVias; Datasheet: https://www.analog.com/media/en/technical-documentation/data-sheets/max22201-max22207.pdf; Description_: 36V, 3.5A Brushed Motor Driver with Integrated Current Sense and Enable/Phase Inputs, 12-TDFN; ki_keywords: Brushed Motor Driver
pins: 1 ILIM, 2 MODE, 3 GNDP, 4 PHASE, 5 ENBL, 6 ISEN, 7 V_{18}, 8 GNDA, 9 OUT2, 10 V_{M}, 11 OUT1, 12 ~{{FAULT}}, 13 PAD

## MAX22207
designator *  value MAX22207  Reference: U
36V, 3.5A Brushed Motor Driver with Integrated Current Sense and Current Driver Regulation output, 12-TDFN; ki_fp_filters: Maxim*TDFN*12*1EP*3x3mm*P0.5mm*EP1.7x2.5mm*; Footprint: Package_DFN_QFN:Maxim_TDFN-12-1EP_3x3mm_P0.5mm_EP1.7x2.5mm_ThermalVias; Datasheet: https://www.analog.com/media/en/technical-documentation/data-sheets/max22201-max22207.pdf; Description_: 36V, 3.5A Brushed Motor Driver with Integrated Current Sense and Current Driver Regulation output, 12-TDFN; ki_keywords: Brushed Motor Driver
pins: 1 ILIM, 2 ~{{CDROUT}}, 3 GNDP, 4 IN1, 5 IN2, 6 ISEN, 7 V_{18}, 8 GNDA, 9 OUT2, 10 V_{M}, 11 OUT1, 12 ~{{FAULT}}, 13 PAD

## MAX22208xTU
designator *  value MAX22208xTU  Reference: U
65V / 3.8A Quad Half H-Bridge Drivers with Integrated Current Sense, WQFN-38; ki_keywords: Analog-Devices Maxim-Integrated; ki_fp_filters: *QFN*5x7mm*P0.5mm*EP3.6*x5.6*mm*; Footprint: Package_DFN_QFN:WQFN-38-1EP_5x7mm_P0.5mm_EP3.65x5.65mm_ThermalVias; Datasheet: https://www.analog.com/media/en/technical-documentation/data-sheets/max22208.pdf; Description_: 65V / 3.8A Quad Half H-Bridge Drivers with Integrated Current Sense, WQFN-38
pins: 1 V_{DD}, 2 EN1, 3 DIN1, 4 EN2, 5 DIN2, 6 EN3, 7 DIN3, 8 EN4, 9 DIN4, 10 GND, 11 GND, 12 ~{{FAULT}}, 13 C_{P1}, 14 C_{P2}, 15 V_{CP}, 16 V_{M}, 17 ~{{SLEEP}}, 18 GND, 19 PGND, 20 PGND, 21 OUT1, 22 V_{M}, 23 V_{M}, 24 OUT2, 25 PGND, 26 PGND, 27 OUT3, 28 V_{M}, 29 V_{M}, 30 OUT4, 31 PGND, 32 PGND, 33 ISEN1, 34 ISEN2, 35 ISEN3, 36 ISEN4, 37 GND, 38 GND, 39 GND

## MAX22208xUU
designator *  value MAX22208xUU  Reference: U
65V / 3.8A Quad Half H-Bridge Drivers with Integrated Current Sense, HTSSOP-38; ki_keywords: Analog-Devices Maxim-Integrated; ki_fp_filters: *HTSSOP*4.4x9.7mm*P0.5mm*EP3.05x6.65mm*; Footprint: Package_SO:HTSSOP-38-1EP_4.4x9.7mm_P0.5mm_EP3.05x6.65mm_ThermalVias; Datasheet: https://www.analog.com/media/en/technical-documentation/data-sheets/max22208.pdf; Description_: 65V / 3.8A Quad Half H-Bridge Drivers with Integrated Current Sense, HTSSOP-38
pins: 1 ISEN4, 2 GND, 3 GND, 4 V_{DD}, 5 EN1, 6 DIN1, 7 EN2, 8 DIN2, 9 EN3, 10 DIN3, 11 EN4, 12 DIN4, 13 GND, 14 GND, 15 ~{{FAULT}}, 16 C_{P1}, 17 C_{P2}, 18 V_{CP}, 19 V_{M}, 20 ~{{SLEEP}}, 21 GND, 22 N.C., 23 PGND, 24 OUT1, 25 V_{M}, 26 V_{M}, 27 OUT2, 28 PGND, 29 PGND, 30 OUT3, 31 V_{M}, 32 V_{M}, 33 OUT4, 34 PGND, 35 N.C., 36 ISEN1, 37 ISEN2, 38 ISEN3, 39 GND

## MP6536DU
designator *  value MP6536DU  Reference: U
3-Channel Half-Bridge Driver, 5..26V power supply, 5.5A peak current output, up to 1MHz PWM frequency, QFN-40; ki_keywords: BLDC 3-Phase Brushless DC Motor Controller; ki_fp_filters: *QFN*1EP*5x5mm*P0.4mm*EP3.5x3.5mm*; Footprint: Package_DFN_QFN:VQFN-40-1EP_5x5mm_P0.4mm_EP3.5x3.5mm_ThermalVias; Datasheet: https://www.monolithicpower.com/en/documentview/productdocument/index/version/2/document_type/Datasheet/lang/en/sku/MP6536/document_id/3761/; Description_: 3-Channel Half-Bridge Driver, 5..26V power supply, 5.5A peak current output, up to 1MHz PWM frequency, QFN-40
part A pins: 1 SW2, 2 SW2, 6 SW1, 7 SW1, 8 LS1, 9 LS1, 12 PWM1, 13 PWM2, 14 ~{{FAULTB}}, 15 ~{{SHDNB}}, 16 PWM3, 17 ~{{STBYB}}, 19 ~{{FLT3B}}, 20 ~{{FLT2B}}, 29 SW3, 30 SW3, 31 LS3, 32 LS3, 39 LS2, 40 LS2
part B pins: 3 VSP, 4 VSP, 5 VSP, 10 BST1, 11 NC, 18 AGND, 21 NC, 22 PGND, 23 PGND, 24 NC, 25 NC, 26 VSP, 27 VSP, 28 VSP, 33 BST3, 34 VDR2, 35 AGND, 36 AGND, 37 VDR1, 38 BST2, 41 PGND

## PAC5527QM
designator *  value PAC5527QM  Reference: U
48V Charge Pump Motor Controller and Driver for BLDC Motors, QFN-48; ki_keywords: mcu motor driver; ki_fp_filters: Qorvo*TQFN66*1EP*6x6mm*P0.4mm*EP4.2x4.2mm*; Footprint: Package_DFN_QFN:Qorvo_TQFN66-48-1EP_6x6mm_P0.4mm_EP4.2x4.2mm; Datasheet: https://www.qorvo.com/products/d/da006847; Description_: 48V Charge Pump Motor Controller and Driver for BLDC Motors, QFN-48
pins: 1 PF2, 2 PF1, 3 PF0, 4 VCC33, 5 VSS, 6 AIO0, 7 AIO1, 8 AIO2, 9 AIO3, 10 AIO4, 11 AIO5, 12 AIO6, 13 AIO7, 14 AIO8, 15 AIO9, 16 VSYS, 17 VM, 18 SW1, 19 SW2, 20 VP, 21 CPL, 22 CPH, 23 DRL0, 24 DRL1, 25 DRL2, 26 DRS0, 27 DRH0, 28 DRS1, 29 DRH1, 30 DRS2, 31 DRH2, 32 VCP, 33 PD7, 34 PD6, 35 PD5, 36 PD4, 37 PE0, 38 PE1, 39 PE2, 40 PE3, 41 VCC18, 42 VCORE, 43 VCCIO, 44 PF7, 45 PF6, 46 PF5, 47 PF4, 48 PF3, 49 VSS

## PG001M
designator *  value PG001M  Reference: U
Parallel to serial data converter for SLA7042M/SLA7044M; ki_keywords: Support IC for SLA7042M/SLA7044M; ki_fp_filters: DIP* PDIP*; Datasheet: http://www.allegromicro.com/~/media/Files/Sanken/Datasheets/PG001M-Datasheet.ashx; Description_: Parallel to serial data converter for SLA7042M/SLA7044M
pins: 1 ~{{RESET}}, 2 CLK_IN, 3 ~{{CW}}, 6 MSEL_1, 7 MSEL_2, 8 GND, 9 ~{{MONITOR}}, 10 DATA_B, 11 DATA_A, 13 ~{{STROBE}}, 14 CLK_OUT, 15 VECTOR, 16 Vdd

## Pololu_Breakout_A4988
designator *  value Pololu_Breakout_A4988  Reference: A
Pololu Breakout Board, Stepper Driver A4988; ki_keywords: Pololu Breakout Board Stepper Driver A4988; ki_fp_filters: Pololu*Breakout*15.2x20.3mm*; Footprint: Module:Pololu_Breakout-16_15.2x20.3mm; Datasheet: https://www.pololu.com/product/2980/pictures; Description_: Pololu Breakout Board, Stepper Driver A4988
pins: 1 GND, 2 VDD, 3 1B, 4 1A, 5 2A, 6 2B, 7 GND, 8 VMOT, 9 ~{{ENABLE}}, 10 MS1, 11 MS2, 12 MS3, 13 ~{{RESET}}, 14 ~{{SLEEP}}, 15 STEP, 16 DIR

## Pololu_Breakout_DRV8825
designator *  value Pololu_Breakout_DRV8825  Reference: A
Pololu Breakout Board, Stepper Driver DRV8825; ki_keywords: Pololu Breakout Board Stepper Driver DRV8825; ki_fp_filters: Pololu*Breakout*15.2x20.3mm*; Footprint: Module:Pololu_Breakout-16_15.2x20.3mm; Datasheet: https://www.pololu.com/product/2982; Description_: Pololu Breakout Board, Stepper Driver DRV8825
pins: 1 GND, 2 ~{{FLT}}, 3 A2, 4 A1, 5 B1, 6 B2, 7 GND, 8 VMOT, 9 ~{{EN}}, 10 M0, 11 M1, 12 M2, 13 ~{{RST}}, 14 ~{{SLP}}, 15 STEP, 16 DIR

## SLA7042M
designator *  value SLA7042M  Reference: U
Unipolar PWM high-current motor driver; ki_keywords: Stepper driver; ki_fp_filters: SLA704XM*; Footprint: Package_SIP:SLA704XM; Datasheet: www.sumzi.com/upload/files/2007/07/2007073114282034189.PDF; Description_: Unipolar PWM high-current motor driver
part A pins: 1 OUT, 2 ~{{STROBE}}, 3 REF, 4 Vdd, 5 ~{{CLOCK}}, 6 DATA, 7 GND, 8 ~{{OUT}}, 9 RS
part B pins: 10 RS, 11 OUT, 12 GND, 13 ~{{STROBE}}, 14 REF, 15 Vdd, 16 ~{{CLOCK}}, 17 DATA, 18 ~{{OUT}}

## SLA7044M
designator *  value SLA7044M  Reference: U
Unipolar PWM high-current motor driver; ki_keywords: Stepper driver; ki_fp_filters: SLA704XM*; Footprint: Package_SIP:SLA704XM; Datasheet: http://www.sumzi.com/upload/files/2007/07/2007073114282034189.PDF; Description_: Unipolar PWM high-current motor driver
part A pins: 1 OUT, 2 ~{{STROBE}}, 3 REF, 4 Vdd, 5 ~{{CLOCK}}, 6 DATA, 7 GND, 8 ~{{OUT}}, 9 RS
part B pins: 10 RS, 11 OUT, 12 GND, 13 ~{{STROBE}}, 14 REF, 15 Vdd, 16 ~{{CLOCK}}, 17 DATA, 18 ~{{OUT}}

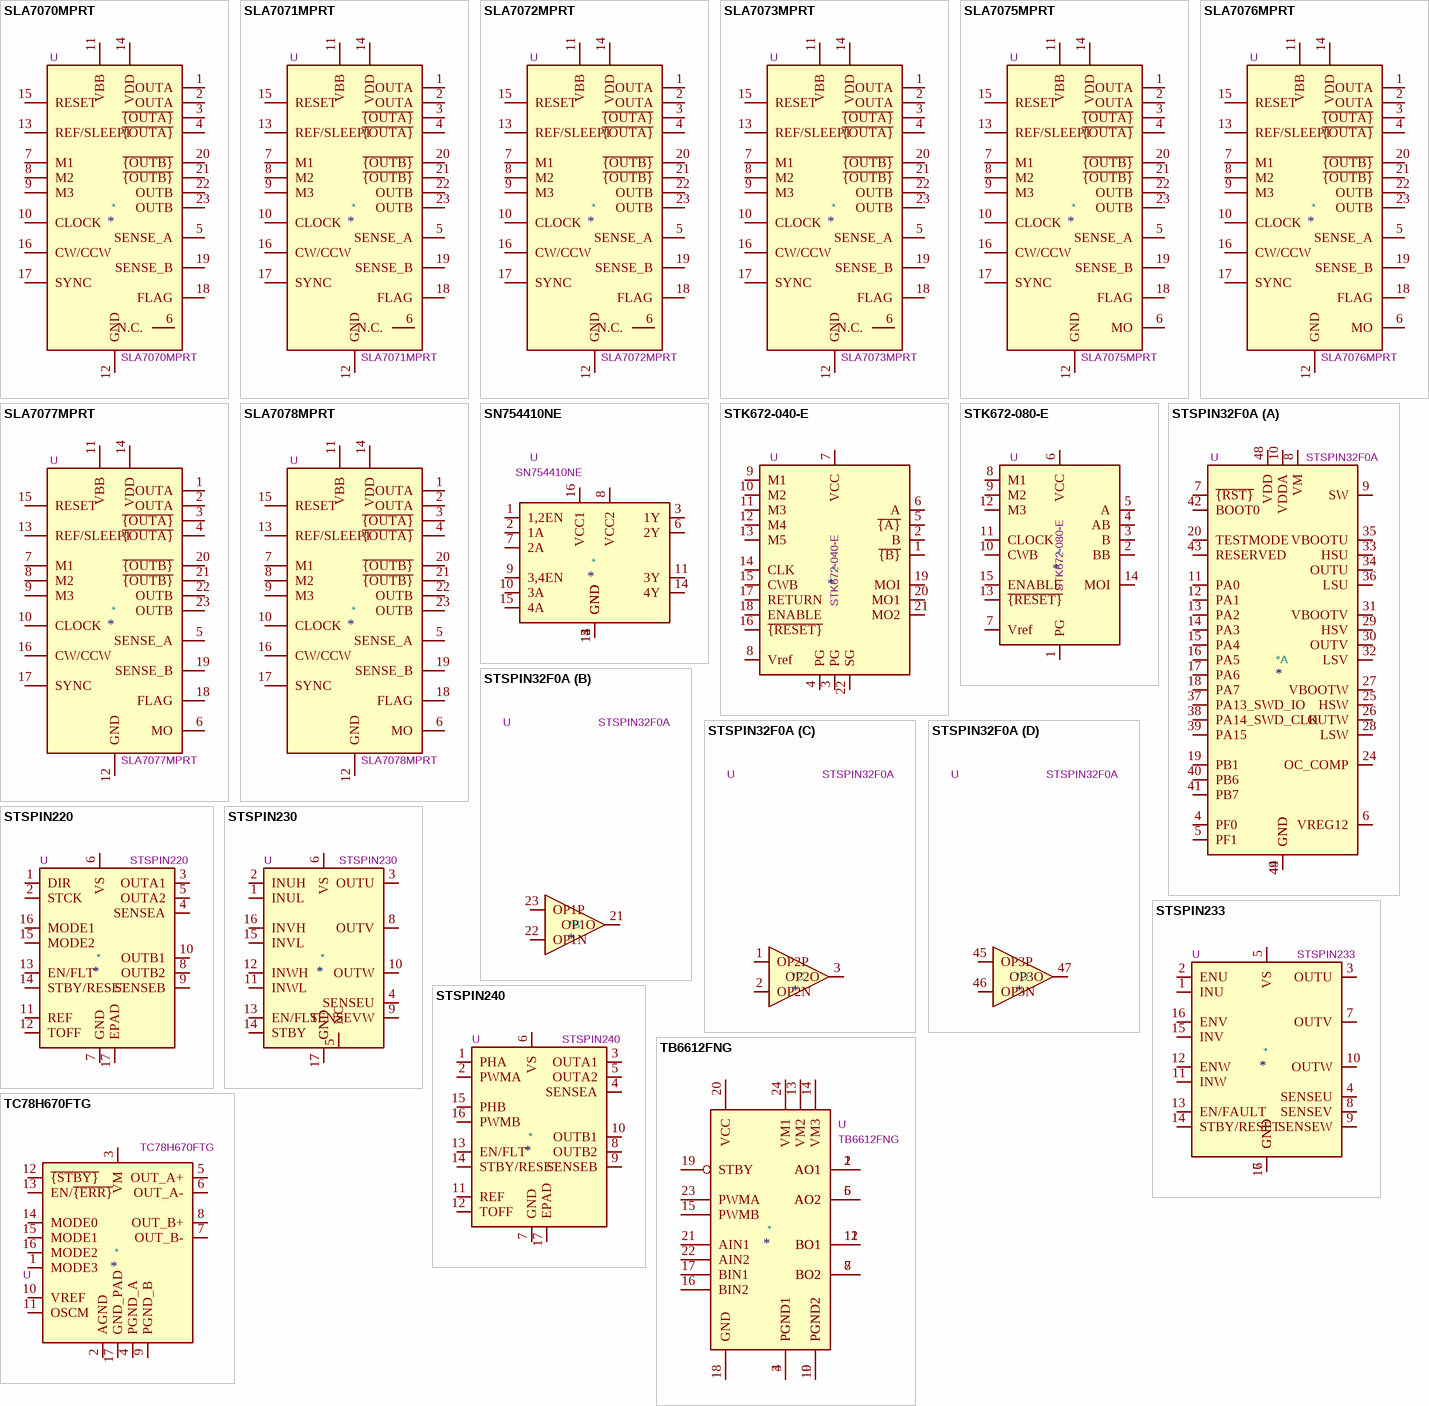
[diagram p2: symbols SLA7070MPRT to TC78H670FTG]

## SLA7070MPRT
designator *  value SLA7070MPRT  Reference: U
Unipolar 2-phase stepper motor driver, Full and Half step, 1A; ki_keywords: Stepper driver; Datasheet: http://www.semicon.sanken-ele.co.jp/sk_content/sla7070mprt_ds_en.pdf; Description_: Unipolar 2-phase stepper motor driver, Full and Half step, 1A
pins: 1 OUTA, 2 OUTA, 3 ~{{OUTA}}, 4 ~{{OUTA}}, 5 SENSE_A, 6 N.C., 7 M1, 8 M2, 9 M3, 10 CLOCK, 11 VBB, 12 GND, 13 REF/SLEEP1, 14 VDD, 15 RESET, 16 CW/CCW, 17 SYNC, 18 FLAG, 19 SENSE_B, 20 ~{{OUTB}}, 21 ~{{OUTB}}, 22 OUTB, 23 OUTB

## SLA7071MPRT
designator *  value SLA7071MPRT  Reference: U
Unipolar 2-phase stepper motor driver, Full and Half step, 1.5A; ki_keywords: Stepper driver; Datasheet: http://www.semicon.sanken-ele.co.jp/sk_content/sla7071mprt_ds_en.pdf; Description_: Unipolar 2-phase stepper motor driver, Full and Half step, 1.5A
pins: 1 OUTA, 2 OUTA, 3 ~{{OUTA}}, 4 ~{{OUTA}}, 5 SENSE_A, 6 N.C., 7 M1, 8 M2, 9 M3, 10 CLOCK, 11 VBB, 12 GND, 13 REF/SLEEP1, 14 VDD, 15 RESET, 16 CW/CCW, 17 SYNC, 18 FLAG, 19 SENSE_B, 20 ~{{OUTB}}, 21 ~{{OUTB}}, 22 OUTB, 23 OUTB

## SLA7072MPRT
designator *  value SLA7072MPRT  Reference: U
Unipolar 2-phase stepper motor driver, Full and Half step, 2A; ki_keywords: Stepper driver; Datasheet: http://www.semicon.sanken-ele.co.jp/sk_content/sla7072mprt_ds_en.pdf; Description_: Unipolar 2-phase stepper motor driver, Full and Half step, 2A
pins: 1 OUTA, 2 OUTA, 3 ~{{OUTA}}, 4 ~{{OUTA}}, 5 SENSE_A, 6 N.C., 7 M1, 8 M2, 9 M3, 10 CLOCK, 11 VBB, 12 GND, 13 REF/SLEEP1, 14 VDD, 15 RESET, 16 CW/CCW, 17 SYNC, 18 FLAG, 19 SENSE_B, 20 ~{{OUTB}}, 21 ~{{OUTB}}, 22 OUTB, 23 OUTB

## SLA7073MPRT
designator *  value SLA7073MPRT  Reference: U
Unipolar 2-phase stepper motor driver, Full and Half step, 3A; ki_keywords: Stepper driver; Datasheet: http://www.semicon.sanken-ele.co.jp/sk_content/sla7073mprt_ds_en.pdf; Description_: Unipolar 2-phase stepper motor driver, Full and Half step, 3A
pins: 1 OUTA, 2 OUTA, 3 ~{{OUTA}}, 4 ~{{OUTA}}, 5 SENSE_A, 6 N.C., 7 M1, 8 M2, 9 M3, 10 CLOCK, 11 VBB, 12 GND, 13 REF/SLEEP1, 14 VDD, 15 RESET, 16 CW/CCW, 17 SYNC, 18 FLAG, 19 SENSE_B, 20 ~{{OUTB}}, 21 ~{{OUTB}}, 22 OUTB, 23 OUTB

## SLA7075MPRT
designator *  value SLA7075MPRT  Reference: U
Unipolar 2-phase stepper motor driver, Microstep, 1A; ki_keywords: Stepper driver; Datasheet: http://www.semicon.sanken-ele.co.jp/sk_content/sla7075mprt_ds_en.pdf; Description_: Unipolar 2-phase stepper motor driver, Microstep, 1A
pins: 1 OUTA, 2 OUTA, 3 ~{{OUTA}}, 4 ~{{OUTA}}, 5 SENSE_A, 6 MO, 7 M1, 8 M2, 9 M3, 10 CLOCK, 11 VBB, 12 GND, 13 REF/SLEEP1, 14 VDD, 15 RESET, 16 CW/CCW, 17 SYNC, 18 FLAG, 19 SENSE_B, 20 ~{{OUTB}}, 21 ~{{OUTB}}, 22 OUTB, 23 OUTB

## SLA7076MPRT
designator *  value SLA7076MPRT  Reference: U
Unipolar 2-phase stepper motor driver, Microstep, 1.5A; ki_keywords: Stepper driver; Datasheet: http://www.semicon.sanken-ele.co.jp/sk_content/sla7076mprt_ds_en.pdf; Description_: Unipolar 2-phase stepper motor driver, Microstep, 1.5A
pins: 1 OUTA, 2 OUTA, 3 ~{{OUTA}}, 4 ~{{OUTA}}, 5 SENSE_A, 6 MO, 7 M1, 8 M2, 9 M3, 10 CLOCK, 11 VBB, 12 GND, 13 REF/SLEEP1, 14 VDD, 15 RESET, 16 CW/CCW, 17 SYNC, 18 FLAG, 19 SENSE_B, 20 ~{{OUTB}}, 21 ~{{OUTB}}, 22 OUTB, 23 OUTB

## SLA7077MPRT
designator *  value SLA7077MPRT  Reference: U
Unipolar 2-phase stepper motor driver, Microstep, 2A; ki_keywords: Stepper driver; Datasheet: http://www.semicon.sanken-ele.co.jp/sk_content/sla7077mprt_ds_en.pdf; Description_: Unipolar 2-phase stepper motor driver, Microstep, 2A
pins: 1 OUTA, 2 OUTA, 3 ~{{OUTA}}, 4 ~{{OUTA}}, 5 SENSE_A, 6 MO, 7 M1, 8 M2, 9 M3, 10 CLOCK, 11 VBB, 12 GND, 13 REF/SLEEP1, 14 VDD, 15 RESET, 16 CW/CCW, 17 SYNC, 18 FLAG, 19 SENSE_B, 20 ~{{OUTB}}, 21 ~{{OUTB}}, 22 OUTB, 23 OUTB

## SLA7078MPRT
designator *  value SLA7078MPRT  Reference: U
Unipolar 2-phase stepper motor driver, Microstep, 3A; ki_keywords: Stepper driver; Datasheet: http://www.semicon.sanken-ele.co.jp/sk_content/sla7078mprt_ds_en.pdf; Description_: Unipolar 2-phase stepper motor driver, Microstep, 3A
pins: 1 OUTA, 2 OUTA, 3 ~{{OUTA}}, 4 ~{{OUTA}}, 5 SENSE_A, 6 MO, 7 M1, 8 M2, 9 M3, 10 CLOCK, 11 VBB, 12 GND, 13 REF/SLEEP1, 14 VDD, 15 RESET, 16 CW/CCW, 17 SYNC, 18 FLAG, 19 SENSE_B, 20 ~{{OUTB}}, 21 ~{{OUTB}}, 22 OUTB, 23 OUTB

## SN754410NE
designator *  value SN754410NE  Reference: U
Quadruple Half-H Driver, DIP-16; ki_keywords: h-bridge motor driver; ki_fp_filters: DIP*W7.62mm*; Footprint: Package_DIP:DIP-16_W7.62mm; Datasheet: https://www.ti.com/lit/ds/symlink/sn754410.pdf; Description_: Quadruple Half-H Driver, DIP-16
pins: 1 1,2EN, 2 1A, 3 1Y, 4 GND, 5 GND, 6 2Y, 7 2A, 8 VCC2, 9 3,4EN, 10 3A, 11 3Y, 12 GND, 13 GND, 14 4Y, 15 4A, 16 VCC1

## STK672-040-E
designator *  value STK672-040-E  Reference: U
Stepper motor driver with microstepping controller, 1.5A; ki_keywords: Stepper driver; ki_fp_filters: STK672?040?E*; Footprint: Package_SIP:STK672-040-E; Datasheet: http://www.onsemi.com/pub_link/Collateral/EN5227-D.PDF; Description_: Stepper motor driver with microstepping controller, 1.5A
pins: 1 ~{{B}}, 2 B, 3 PG, 4 PG, 5 ~{{A}}, 6 A, 7 VCC, 8 Vref, 9 M1, 10 M2, 11 M3, 12 M4, 13 M5, 14 CLK, 15 CWB, 16 ~{{RESET}}, 17 RETURN, 18 ENABLE, 19 MOI, 20 MO1, 21 MO2, 22 SG

## STK672-080-E
designator *  value STK672-080-E  Reference: U
Stepper motor driver with microstepping controller, 2.8A; ki_keywords: Stepper driver; ki_fp_filters: STK672?080?E*; Footprint: Package_SIP:STK672-080-E; Datasheet: http://www.onsemi.com/pub_link/Collateral/EN6507-D.PDF; Description_: Stepper motor driver with microstepping controller, 2.8A
pins: 1 PG, 2 BB, 3 B, 4 AB, 5 A, 6 VCC, 7 Vref, 8 M1, 9 M2, 10 CWB, 11 CLOCK, 12 M3, 13 ~{{RESET}}, 14 MOI, 15 ENABLE

## STSPIN32F0A
designator *  value STSPIN32F0A  Reference: U
Advanced BLDC controller with embedded STM32 MCU, VQFN-48; ki_keywords: three-phase-brushless-DC-motor-controller STM32F031C6 SWD I2C SPI USART GPIO; ki_fp_filters: *VQFN*7x7mm?P0.5mm?EP2.6*x2.6*mm*; Footprint: Package_DFN_QFN:VQFN-48-1EP_7x7mm_P0.5mm_EP2.6x2.6mm; Datasheet: https://www.st.com/resource/en/datasheet/stspin32f0a.pdf; Description_: Advanced BLDC controller with embedded STM32 MCU, VQFN-48
part A pins: 4 PF0, 5 PF1, 6 VREG12, 7 ~{{RST}}, 8 VM, 9 SW, 10 VDDA, 11 PA0, 12 PA1, 13 PA2, 14 PA3, 15 PA4, 16 PA5, 17 PA6, 18 PA7, 19 PB1, 20 TESTMODE, 24 OC_COMP, 25 HSW, 26 OUTW, 27 VBOOTW, 28 LSW, 29 HSV, 30 OUTV, 31 VBOOTV, 32 LSV, 33 HSU, 34 OUTU, 35 VBOOTU, 36 LSU, 37 PA13_SWD_IO, 38 PA14_SWD_CLK, 39 PA15, 40 PB6, 41 PB7, 42 BOOT0, 43 RESERVED, 44 GND, 48 VDD, 49 GND
part B pins: 21 OP1O, 22 OP1N, 23 OP1P
part C pins: 1 OP2P, 2 OP2N, 3 OP2O
part D pins: 45 OP3P, 46 OP3N, 47 OP3O

## STSPIN220
designator *  value STSPIN220  Reference: U
Low voltage stepper motor driver, 1.8V to 10V input, 1.3Arms output, 0.4Ω Rdson per phase (typical), QFN-16 package; ki_keywords: motor driver stepper; ki_fp_filters: VQFN*1EP*3x3mm*P0.5mm*; Footprint: Package_DFN_QFN:VQFN-16-1EP_3x3mm_P0.5mm_EP1.8x1.8mm; Datasheet: www.st.com/resource/en/datasheet/stspin220.pdf; Description_: Low voltage stepper motor driver, 1.8V to 10V input, 1.3Arms output, 0.4Ω Rdson per phase (typical), QFN-16 package
pins: 1 DIR, 2 STCK, 3 OUTA1, 4 SENSEA, 5 OUTA2, 6 VS, 7 GND, 8 OUTB2, 9 SENSEB, 10 OUTB1, 11 REF, 12 TOFF, 13 EN/FLT, 14 STBY/RESET, 15 MODE2, 16 MODE1, 17 EPAD

## STSPIN230
designator *  value STSPIN230  Reference: U
Low voltage triple half-bridge motor driver, 1.8V to 10V input, 1.3Arms output, 0.4Ω Rdson per phase (typical), QFN-16 package; ki_keywords: motor driver half-bridge; ki_fp_filters: VQFN*1EP*3x3mm*P0.5mm*; Footprint: Package_DFN_QFN:VQFN-16-1EP_3x3mm_P0.5mm_EP1.8x1.8mm; Datasheet: www.st.com/resource/en/datasheet/stspin230.pdf; Description_: Low voltage triple half-bridge motor driver, 1.8V to 10V input, 1.3Arms output, 0.4Ω Rdson per phase (typical), QFN-16 package
pins: 1 INUL, 2 INUH, 3 OUTU, 4 SENSEU, 5 NC, 6 VS, 7 GND, 8 OUTV, 9 SENSEVW, 10 OUTW, 11 INWL, 12 INWH, 13 EN/FLT, 14 STBY, 15 INVL, 16 INVH, 17 GND

## STSPIN233
designator *  value STSPIN233  Reference: U
Low voltage three phase and three sense motor driver, 1.8V to 10V input, 1.3Arms output, 0.4Ω Rdson per phase (typical), QFN-16 package; ki_keywords: motor driver half-bridge; ki_fp_filters: VQFN*1EP*3x3mm*P0.5mm*; Footprint: Package_DFN_QFN:VQFN-16-1EP_3x3mm_P0.5mm_EP1.8x1.8mm; Datasheet: www.st.com/resource/en/datasheet/stspin233.pdf; Description_: Low voltage three phase and three sense motor driver, 1.8V to 10V input, 1.3Arms output, 0.4Ω Rdson per phase (typical), QFN-16 package
pins: 1 INU, 2 ENU, 3 OUTU, 4 SENSEU, 5 VS, 6 GND, 7 OUTV, 8 SENSEV, 9 SENSEW, 10 OUTW, 11 INW, 12 ENW, 13 EN/FAULT, 14 STBY/RESET, 15 INV, 16 ENV, 17 GND

## STSPIN240
designator *  value STSPIN240  Reference: U
Low voltage dual brush DC motor driver, 1.8V to 10V input, 1.3Arms output, 0.4Ω Rdson per phase (typical), QFN-16 package; ki_keywords: motor driver dc brushed; ki_fp_filters: VQFN*1EP*3x3mm*P0.5mm*; Footprint: Package_DFN_QFN:VQFN-16-1EP_3x3mm_P0.5mm_EP1.8x1.8mm; Datasheet: www.st.com/resource/en/datasheet/stspin240.pdf; Description_: Low voltage dual brush DC motor driver, 1.8V to 10V input, 1.3Arms output, 0.4Ω Rdson per phase (typical), QFN-16 package
pins: 1 PHA, 2 PWMA, 3 OUTA1, 4 SENSEA, 5 OUTA2, 6 VS, 7 GND, 8 OUTB2, 9 SENSEB, 10 OUTB1, 11 REF, 12 TOFF, 13 EN/FLT, 14 STBY/RESET, 15 PHB, 16 PWMB, 17 EPAD

## TB6612FNG
designator *  value TB6612FNG  Reference: U
Driver IC for Dual DC motor, SSOP-24; ki_keywords: H-bridge motor driver; ki_fp_filters: SSOP*5.3x8.2mm*P0.65mm*; Footprint: Package_SO:SSOP-24_5.3x8.2mm_P0.65mm; Datasheet: https://toshiba.semicon-storage.com/us/product/linear/motordriver/detail.TB6612FNG.html; Description_: Driver IC for Dual DC motor, SSOP-24
pins: 1 AO1, 2 AO1, 3 PGND1, 4 PGND1, 5 AO2, 6 AO2, 7 BO2, 8 BO2, 9 PGND2, 10 PGND2, 11 BO1, 12 BO1, 13 VM2, 14 VM3, 15 PWMB, 16 BIN2, 17 BIN1, 18 GND, 19 STBY, 20 VCC, 21 AIN1, 22 AIN2, 23 PWMA, 24 VM1

## TC78H670FTG
designator *  value TC78H670FTG  Reference: U
Bipolar stepping motor driver IC, QFN-16; ki_fp_filters: *VQFN*1EP*3x3mm*P0.5mm*; Footprint: Package_DFN_QFN:VQFN-16-1EP_3x3mm_P0.5mm_EP1.8x1.8mm; Datasheet: https://toshiba.semicon-storage.com/info/TC78H670FTG_datasheet_en_20210209.pdf?did=68606&prodName=TC78H670FTG; Description_: Bipolar stepping motor driver IC, QFN-16; ki_keywords: stepping motor driver
pins: 1 MODE3, 2 AGND, 3 VM, 4 PGND_A, 5 OUT_A+, 6 OUT_A-, 7 OUT_B-, 8 OUT_B+, 9 PGND_B, 10 VREF, 11 OSCM, 12 ~{{STBY}}, 13 EN/~{{ERR}}, 14 MODE0, 15 MODE1, 16 MODE2, 17 GND_PAD

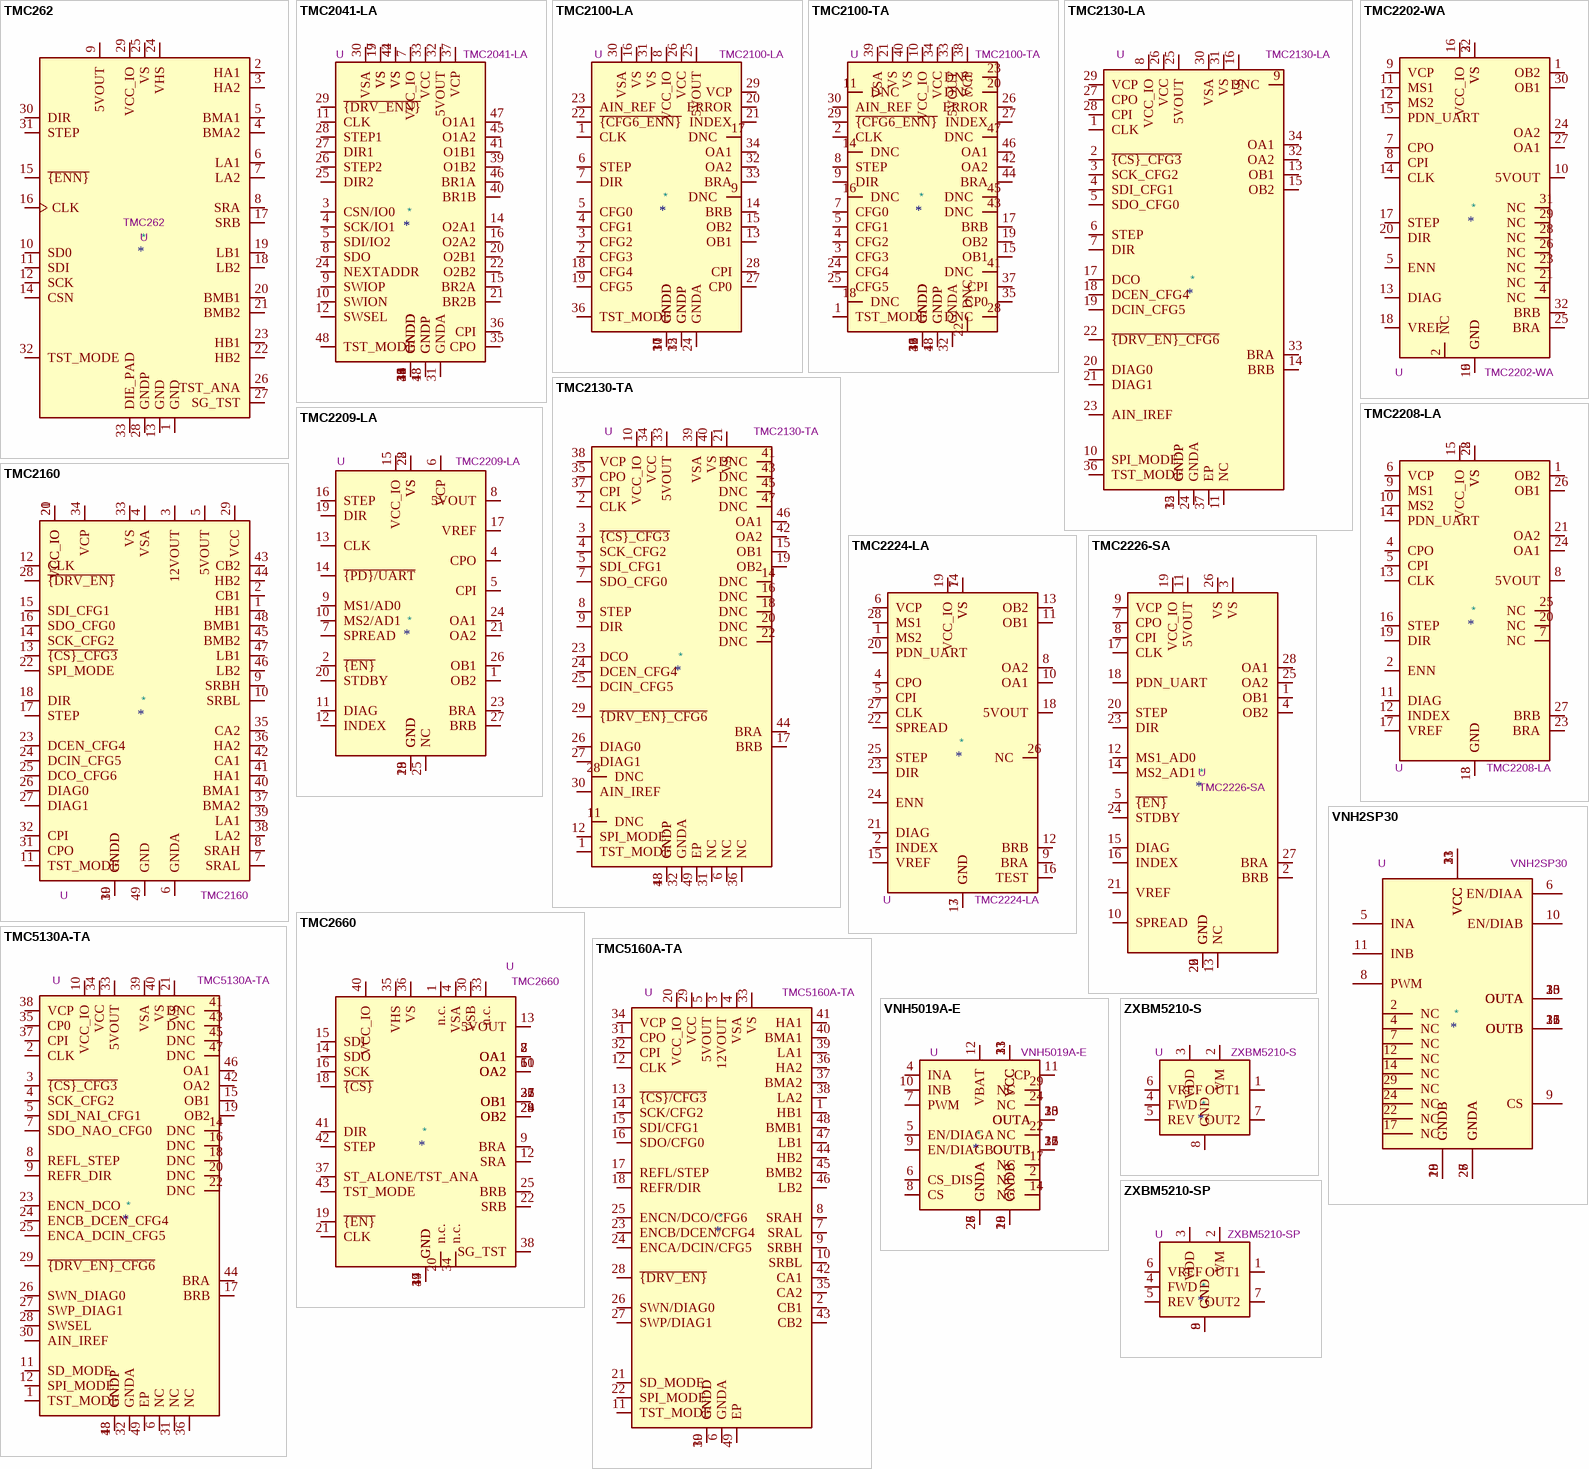
[diagram p3: symbols TMC262 to ZXBM5210-SP]

## TMC262
designator *  value TMC262  Reference: U
Driver for two-phase stepper motors with external mosfet; ki_keywords: trinamic tlc262 stepper; ki_fp_filters: QFN*1EP*5x5mm*P0.5mm*; Footprint: Package_DFN_QFN:QFN-32-1EP_5x5mm_P0.5mm_EP3.45x3.45mm; Datasheet: https://www.trinamic.com/fileadmin/assets/Products/ICs_Documents/TMC262_Datasheet.pdf; Description_: Driver for two-phase stepper motors with external mosfet
pins: 1 GND, 2 HA1, 3 HA2, 4 BMA2, 5 BMA1, 6 LA1, 7 LA2, 8 SRA, 9 5VOUT, 10 SD0, 11 SDI, 12 SCK, 13 GND, 14 CSN, 15 ~{{ENN}}, 16 CLK, 17 SRB, 18 LB2, 19 LB1, 20 BMB1, 21 BMB2, 22 HB2, 23 HB1, 24 VHS, 25 VS, 26 TST_ANA, 27 SG_TST, 28 GNDP, 29 VCC_IO, 30 DIR, 31 STEP, 32 TST_MODE, 33 DIE_PAD

## TMC2041-LA
designator *  value TMC2041-LA  Reference: U
Standalone Dual driver for two-phase bipolar stepper motor, 2.2A, 4.75-26V, SPI, UART, QFN-48; ki_keywords: Dual driver stepper motor; ki_fp_filters: QFN*1EP*7x7mm*P0.5mm*; Footprint: Package_DFN_QFN:QFN-48-1EP_7x7mm_P0.5mm_EP5.3x5.3mm_ThermalVias; Datasheet: https://www.trinamic.com/fileadmin/assets/Products/ICs_Documents/TMC2041_datasheet.pdf; Description_: Standalone Dual driver for two-phase bipolar stepper motor, 2.2A, 4.75-26V, SPI, UART, QFN-48
pins: 1 GNDD, 2 GNDD, 3 CSN/IO0, 4 SCK/IO1, 5 SDI/IO2, 6 GNDD, 7 VCC_IO, 8 SDO, 9 SWIOP, 10 SWION, 11 CLK, 12 SWSEL, 13 GNDD, 14 O2A1, 15 BR2A, 16 O2A2, 17 VS, 18 GNDP, 19 VS, 20 O2B1, 21 BR2B, 22 O2B2, 23 GNDD, 24 NEXTADDR, 25 DIR2, 26 STEP2, 27 DIR1, 28 STEP1, 29 ~{{DRV_ENN}}, 30 VSA, 31 GNDA, 32 5VOUT, 33 VCC, 34 GNDD, 35 CPO, 36 CPI, 37 VCP, 38 GNDD, 39 O1B2, 40 BR1B, 41 O1B1, 42 VS, 43 GNDP, 44 VS, 45 O1A2, 46 BR1A, 47 O1A1, 48 TST_MODE, 49 GNDD

## TMC2100-LA
designator *  value TMC2100-LA  Reference: U
Standalone driver for two-phase bipolar stepper motor, 2.0A, 4.75-46V, QFN-36; ki_keywords: Driver stepper motor; ki_fp_filters: QFN*1EP*5x6mm*P0.5mm*; Footprint: Package_DFN_QFN:QFN-36-1EP_5x6mm_P0.5mm_EP3.6x4.1mm_ThermalVias; Datasheet: https://www.trinamic.com/fileadmin/assets/Products/ICs_Documents/TMC2100_datasheet_Rev1.08.pdf; Description_: Standalone driver for two-phase bipolar stepper motor, 2.0A, 4.75-46V, QFN-36
pins: 1 CLK, 2 CFG3, 3 CFG2, 4 CFG1, 5 CFG0, 6 STEP, 7 DIR, 8 VCC_IO, 9 DNC, 10 GNDD, 11 GNDD, 12 GNDP, 13 OB1, 14 BRB, 15 OB2, 16 VS, 17 DNC, 18 CFG4, 19 CFG5, 20 ERROR, 21 INDEX, 22 ~{{CFG6_ENN}}, 23 AIN_REF, 24 GNDA, 25 5VOUT, 26 VCC, 27 CP0, 28 CPI, 29 VCP, 30 VSA, 31 VS, 32 OA2, 33 BRA, 34 OA1, 35 GNDP, 36 TST_MODE, 37 GNDD

## TMC2100-TA
designator *  value TMC2100-TA  Reference: U
Standalone driver for two-phase bipolar stepper motor, 2.0A, 4.75-46V, TQFP-48; ki_keywords: Standalone driver stepper motor; ki_fp_filters: TQFP*1EP*7x7mm*P0.5mm*; Footprint: Package_QFP:TQFP-48-1EP_7x7mm_P0.5mm_EP5x5mm_ThermalVias; Datasheet: https://www.trinamic.com/fileadmin/assets/Products/ICs_Documents/TMC2100_datasheet_Rev1.08.pdf; Description_: Standalone driver for two-phase bipolar stepper motor, 2.0A, 4.75-46V, TQFP-48
pins: 1 TST_MODE, 2 CLK, 3 CFG3, 4 CFG2, 5 CFG1, 6 GNDD, 7 CFG0, 8 STEP, 9 DIR, 10 VCC_IO, 11 DNC, 12 GNDD, 13 GNDP, 14 DNC, 15 OB1, 16 DNC, 17 BRB, 18 DNC, 19 OB2, 20 DNC, 21 VS, 22 DNC, 23 DNC, 24 CFG4, 25 CFG5, 26 ERROR, 27 INDEX, 28 DNC, 29 ~{{CFG6_ENN}}, 30 AIN_REF, 31 GNDD, 32 GNDA, 33 5VOUT, 34 VCC, 35 CP0, 36 GNDD, 37 CPI, 38 VCP, 39 VSA, 40 VS, 41 DNC, 42 OA2, 43 DNC, 44 BRA, 45 DNC, 46 OA1, 47 DNC, 48 GNDP, 49 GNDD